# Altium schematic symbol library arthurbenemann-Atmel.SchLib: 651 symbols (part 9 of 28)
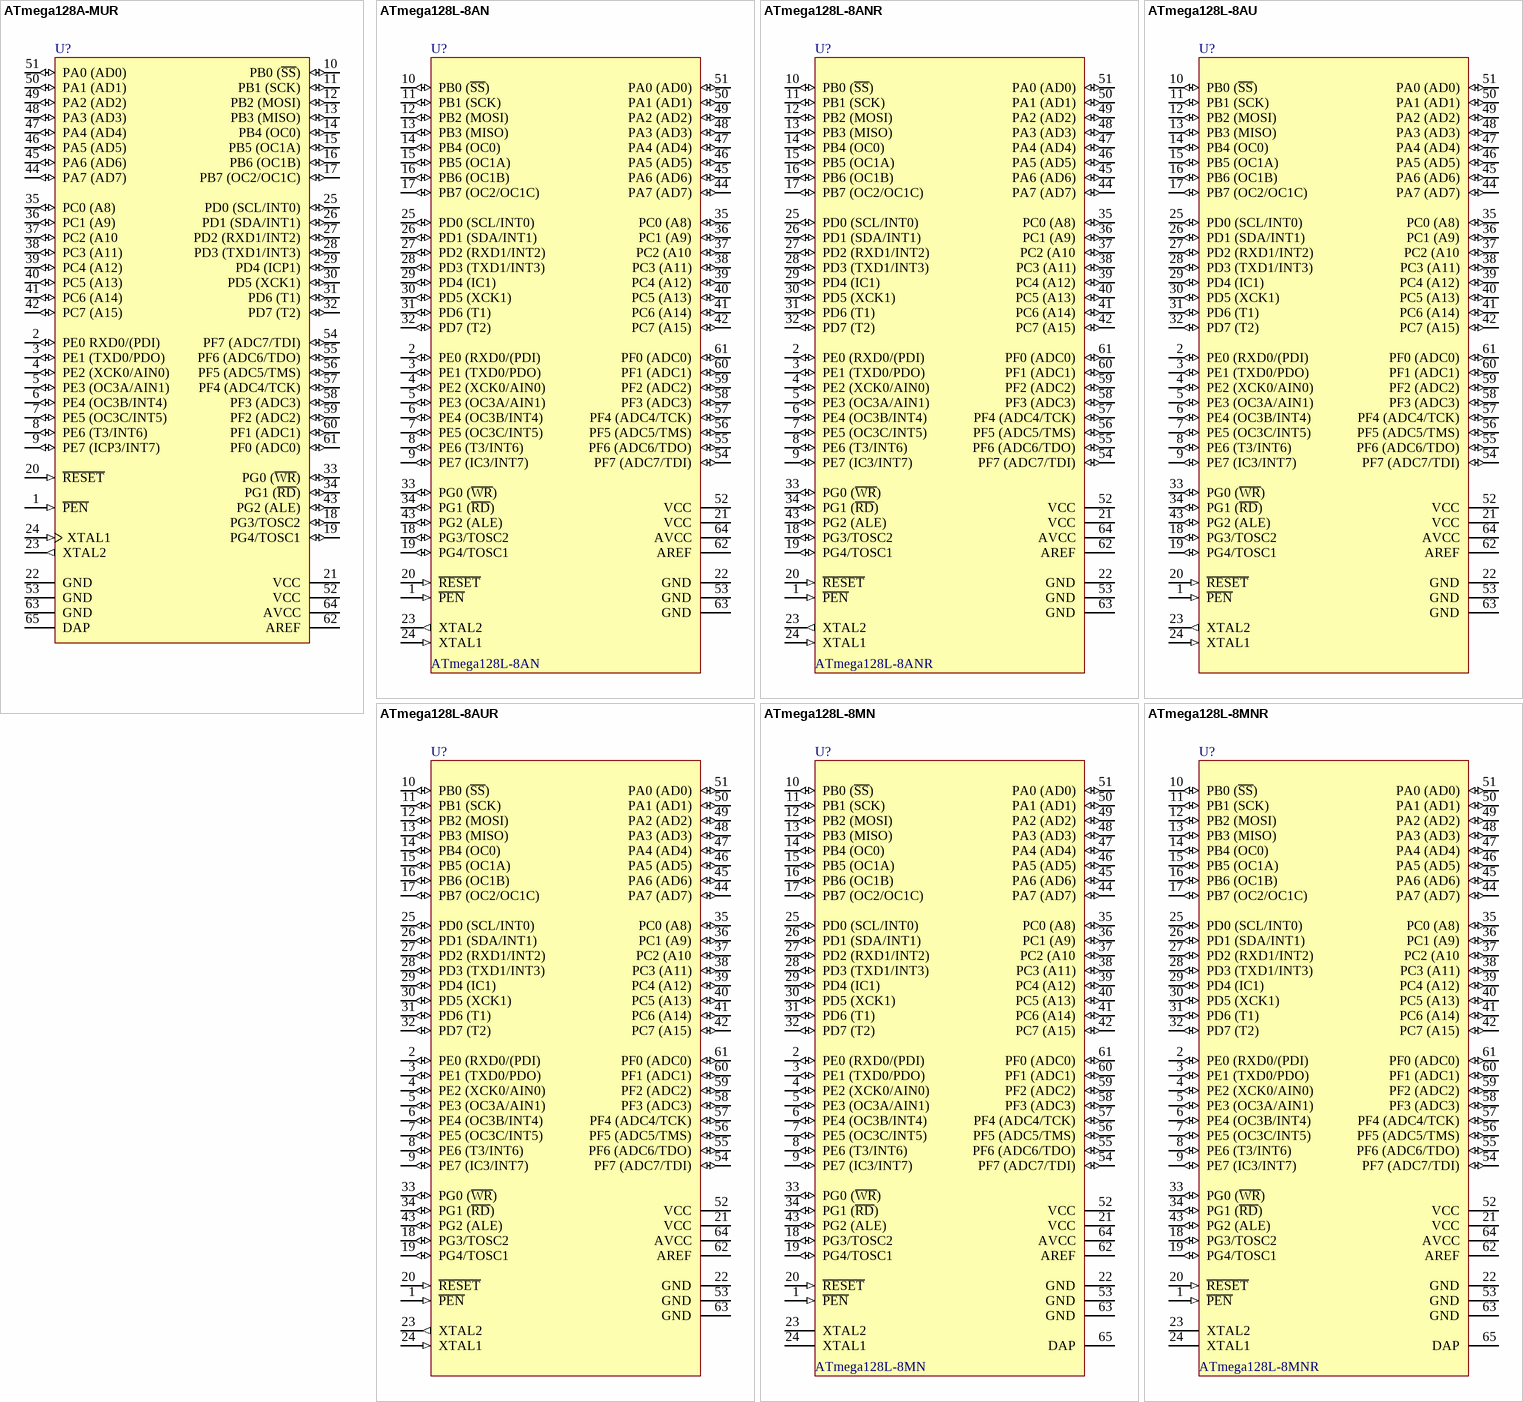
[diagram p95: symbols ATmega128A-MUR to ATmega128L-8MNR]

## ATmega128L-8AUR
designator U?
8-bit AVR Microcontroller, 2.7-5.5V, 128KB Flash, 4KB EEPROM, 4KB SRAM, 64-pin TQFP, Industrial Grade (-40°C to 85°C), Reel; DatasheetVersion: revX, Jun-2011; PackageVersion: revC, Oct-2010; PackageReference: 64A; PackageDescription: 64-Pin Plastic Thin Profile Quad Flat Pack, 14 x 14 x 1.0 mm Body, 0.8 mm Pitch (TQFP); Code_JEDEC: MS-026-AEB; ComponentLink1Description: Manufacturer URL; ComponentLink1URL: http://www.atmel.com/; ComponentLink2Description: ATmega128(L) Datasheet; ComponentLink2URL: http://www.atmel.com/dyn/resources/prod_documents/doc2467.pdf; ComponentLink3Description: ATmega128(L) Summary; ComponentLink3URL: http://www.atmel.com/dyn/resources/prod_documents/2467S.pdf
footprint 64A_N (Thin QFP, 64-Leads, Body 14x14mm, Pitch 0.8mm, IPC Medium Density)
footprint 64A_L (Thin QFP, 64-Leads, Body 14x14mm, Pitch 0.8mm, IPC High Density)
footprint 64A_M (Thin QFP, 64-Leads, Body 14x14mm, Pitch 0.8mm, IPC Low Density)
pins: 1 ~{PEN} (in), 2 PE0 (RXD0/(PDI) (io), 3 PE1 (TXD0/PDO) (io), 4 PE2 (XCK0/AIN0) (io), 5 PE3 (OC3A/AIN1) (io), 6 PE4 (OC3B/INT4) (io), 7 PE5 (OC3C/INT5) (io), 8 PE6 (T3/INT6) (io), 9 PE7 (IC3/INT7) (io), 10 PB0 (~{SS}) (io), 11 PB1 (SCK) (io), 12 PB2 (MOSI) (io), 13 PB3 (MISO) (io), 14 PB4 (OC0) (io), 15 PB5 (OC1A) (io), 16 PB6 (OC1B) (io), 17 PB7 (OC2/OC1C) (io), 18 PG3/TOSC2 (io), 19 PG4/TOSC1 (io), 20 ~{RESET} (in), 21 VCC (power), 22 GND (power), 23 XTAL2 (out), 24 XTAL1 (in), 25 PD0 (SCL/INT0) (io), 26 PD1 (SDA/INT1) (io), 27 PD2 (RXD1/INT2) (io), 28 PD3 (TXD1/INT3) (io), 29 PD4 (IC1) (io), 30 PD5 (XCK1) (io), 31 PD6 (T1) (io), 32 PD7 (T2) (io), 33 PG0 (~{WR}) (io), 34 PG1 (~{RD}) (io), 35 PC0 (A8) (io), 36 PC1 (A9) (io), 37 PC2 (A10 (io), 38 PC3 (A11) (io), 39 PC4 (A12) (io), 40 PC5 (A13) (io), 41 PC6 (A14) (io), 42 PC7 (A15) (io), 43 PG2 (ALE) (io), 44 PA7 (AD7) (io), 45 PA6 (AD6) (io), 46 PA5 (AD5) (io), 47 PA4 (AD4) (io), 48 PA3 (AD3) (io), 49 PA2 (AD2) (io), 50 PA1 (AD1) (io), 51 PA0 (AD0) (io), 52 VCC (power), 53 GND (power), 54 PF7 (ADC7/TDI) (io), 55 PF6 (ADC6/TDO) (io), 56 PF5 (ADC5/TMS) (io), 57 PF4 (ADC4/TCK) (io), 58 PF3 (ADC3) (io), 59 PF2 (ADC2) (io), 60 PF1 (ADC1) (io), 61 PF0 (ADC0) (io), 62 AREF, 63 GND (power), 64 AVCC (power)

## ATmega128L-8MN
designator U?
8-bit AVR Microcontroller, 3.0-5.5V, 128KB Flash, 4KB EEPROM, 4KB SRAM, 64-pin MLF, Extended Grade (-40°C to 105°C); DatasheetVersion: revX, Jun-2011; PackageVersion: revH, Oct-2010; PackageReference: 64M1; PackageDescription: 64-Pin Micro Lead Frame Package (MLF), 9 x 9 x 1.0 mm Body, 0.5 mm Pitch, 5.40 mm Exposed Pad; Code_JEDEC: MO-220-VMMD; ComponentLink1Description: Manufacturer URL; ComponentLink1URL: http://www.atmel.com/; ComponentLink2Description: ATmega128(L) Datasheet; ComponentLink2URL: http://www.atmel.com/dyn/resources/prod_documents/doc2467.pdf; ComponentLink3Description: ATmega128(L) Summary; ComponentLink3URL: http://www.atmel.com/dyn/resources/prod_documents/2467S.pdf
footprint 64M1_N (QFN, 64-Leads, Body 9x9mm, Pitch 0.5mm, Thermal Pad 5.6x5.6mm, IPC Medium Density)
footprint 64M1_L (QFN, 64-Leads, Body 9x9mm, Pitch 0.5mm, Thermal Pad 5.6x5.6mm, IPC High Density)
footprint 64M1_M (QFN, 64-Leads, Body 9x9mm, Pitch 0.5mm, Thermal Pad 5.6x5.6mm, IPC Low Density)
pins: 1 ~{PEN} (in), 2 PE0 (RXD0/(PDI) (io), 3 PE1 (TXD0/PDO) (io), 4 PE2 (XCK0/AIN0) (io), 5 PE3 (OC3A/AIN1) (io), 6 PE4 (OC3B/INT4) (io), 7 PE5 (OC3C/INT5) (io), 8 PE6 (T3/INT6) (io), 9 PE7 (IC3/INT7) (io), 10 PB0 (~{SS}) (io), 11 PB1 (SCK) (io), 12 PB2 (MOSI) (io), 13 PB3 (MISO) (io), 14 PB4 (OC0) (io), 15 PB5 (OC1A) (io), 16 PB6 (OC1B) (io), 17 PB7 (OC2/OC1C) (io), 18 PG3/TOSC2 (io), 19 PG4/TOSC1 (io), 20 ~{RESET} (in), 21 VCC (power), 22 GND (power), 23 XTAL2, 24 XTAL1, 25 PD0 (SCL/INT0) (io), 26 PD1 (SDA/INT1) (io), 27 PD2 (RXD1/INT2) (io), 28 PD3 (TXD1/INT3) (io), 29 PD4 (IC1) (io), 30 PD5 (XCK1) (io), 31 PD6 (T1) (io), 32 PD7 (T2) (io), 33 PG0 (~{WR}) (io), 34 PG1 (~{RD}) (io), 35 PC0 (A8) (io), 36 PC1 (A9) (io), 37 PC2 (A10 (io), 38 PC3 (A11) (io), 39 PC4 (A12) (io), 40 PC5 (A13) (io), 41 PC6 (A14) (io), 42 PC7 (A15) (io), 43 PG2 (ALE) (io), 44 PA7 (AD7) (io), 45 PA6 (AD6) (io), 46 PA5 (AD5) (io), 47 PA4 (AD4) (io), 48 PA3 (AD3) (io), 49 PA2 (AD2) (io), 50 PA1 (AD1) (io), 51 PA0 (AD0) (io), 52 VCC (power), 53 GND (power), 54 PF7 (ADC7/TDI) (io), 55 PF6 (ADC6/TDO) (io), 56 PF5 (ADC5/TMS) (io), 57 PF4 (ADC4/TCK) (io), 58 PF3 (ADC3) (io), 59 PF2 (ADC2) (io), 60 PF1 (ADC1) (io), 61 PF0 (ADC0) (io), 62 AREF, 63 GND (power), 64 AVCC (power), 65 DAP (power)

## ATmega128L-8MNR
designator U?
8-bit AVR Microcontroller, 3.0-5.5V, 128KB Flash, 4KB EEPROM, 4KB SRAM, 64-pin MLF, Extended Grade (-40°C to 105°C), Reel; DatasheetVersion: revX, Jun-2011; PackageVersion: revH, Oct-2010; PackageReference: 64M1; PackageDescription: 64-Pin Micro Lead Frame Package (MLF), 9 x 9 x 1.0 mm Body, 0.5 mm Pitch, 5.40 mm Exposed Pad; Code_JEDEC: MO-220-VMMD; ComponentLink1Description: Manufacturer URL; ComponentLink1URL: http://www.atmel.com/; ComponentLink2Description: ATmega128(L) Datasheet; ComponentLink2URL: http://www.atmel.com/dyn/resources/prod_documents/doc2467.pdf; ComponentLink3Description: ATmega128(L) Summary; ComponentLink3URL: http://www.atmel.com/dyn/resources/prod_documents/2467S.pdf
footprint 64M1_N (QFN, 64-Leads, Body 9x9mm, Pitch 0.5mm, Thermal Pad 5.6x5.6mm, IPC Medium Density)
footprint 64M1_L (QFN, 64-Leads, Body 9x9mm, Pitch 0.5mm, Thermal Pad 5.6x5.6mm, IPC High Density)
footprint 64M1_M (QFN, 64-Leads, Body 9x9mm, Pitch 0.5mm, Thermal Pad 5.6x5.6mm, IPC Low Density)
pins: 1 ~{PEN} (in), 2 PE0 (RXD0/(PDI) (io), 3 PE1 (TXD0/PDO) (io), 4 PE2 (XCK0/AIN0) (io), 5 PE3 (OC3A/AIN1) (io), 6 PE4 (OC3B/INT4) (io), 7 PE5 (OC3C/INT5) (io), 8 PE6 (T3/INT6) (io), 9 PE7 (IC3/INT7) (io), 10 PB0 (~{SS}) (io), 11 PB1 (SCK) (io), 12 PB2 (MOSI) (io), 13 PB3 (MISO) (io), 14 PB4 (OC0) (io), 15 PB5 (OC1A) (io), 16 PB6 (OC1B) (io), 17 PB7 (OC2/OC1C) (io), 18 PG3/TOSC2 (io), 19 PG4/TOSC1 (io), 20 ~{RESET} (in), 21 VCC (power), 22 GND (power), 23 XTAL2, 24 XTAL1, 25 PD0 (SCL/INT0) (io), 26 PD1 (SDA/INT1) (io), 27 PD2 (RXD1/INT2) (io), 28 PD3 (TXD1/INT3) (io), 29 PD4 (IC1) (io), 30 PD5 (XCK1) (io), 31 PD6 (T1) (io), 32 PD7 (T2) (io), 33 PG0 (~{WR}) (io), 34 PG1 (~{RD}) (io), 35 PC0 (A8) (io), 36 PC1 (A9) (io), 37 PC2 (A10 (io), 38 PC3 (A11) (io), 39 PC4 (A12) (io), 40 PC5 (A13) (io), 41 PC6 (A14) (io), 42 PC7 (A15) (io), 43 PG2 (ALE) (io), 44 PA7 (AD7) (io), 45 PA6 (AD6) (io), 46 PA5 (AD5) (io), 47 PA4 (AD4) (io), 48 PA3 (AD3) (io), 49 PA2 (AD2) (io), 50 PA1 (AD1) (io), 51 PA0 (AD0) (io), 52 VCC (power), 53 GND (power), 54 PF7 (ADC7/TDI) (io), 55 PF6 (ADC6/TDO) (io), 56 PF5 (ADC5/TMS) (io), 57 PF4 (ADC4/TCK) (io), 58 PF3 (ADC3) (io), 59 PF2 (ADC2) (io), 60 PF1 (ADC1) (io), 61 PF0 (ADC0) (io), 62 AREF, 63 GND (power), 64 AVCC (power), 65 DAP (power)

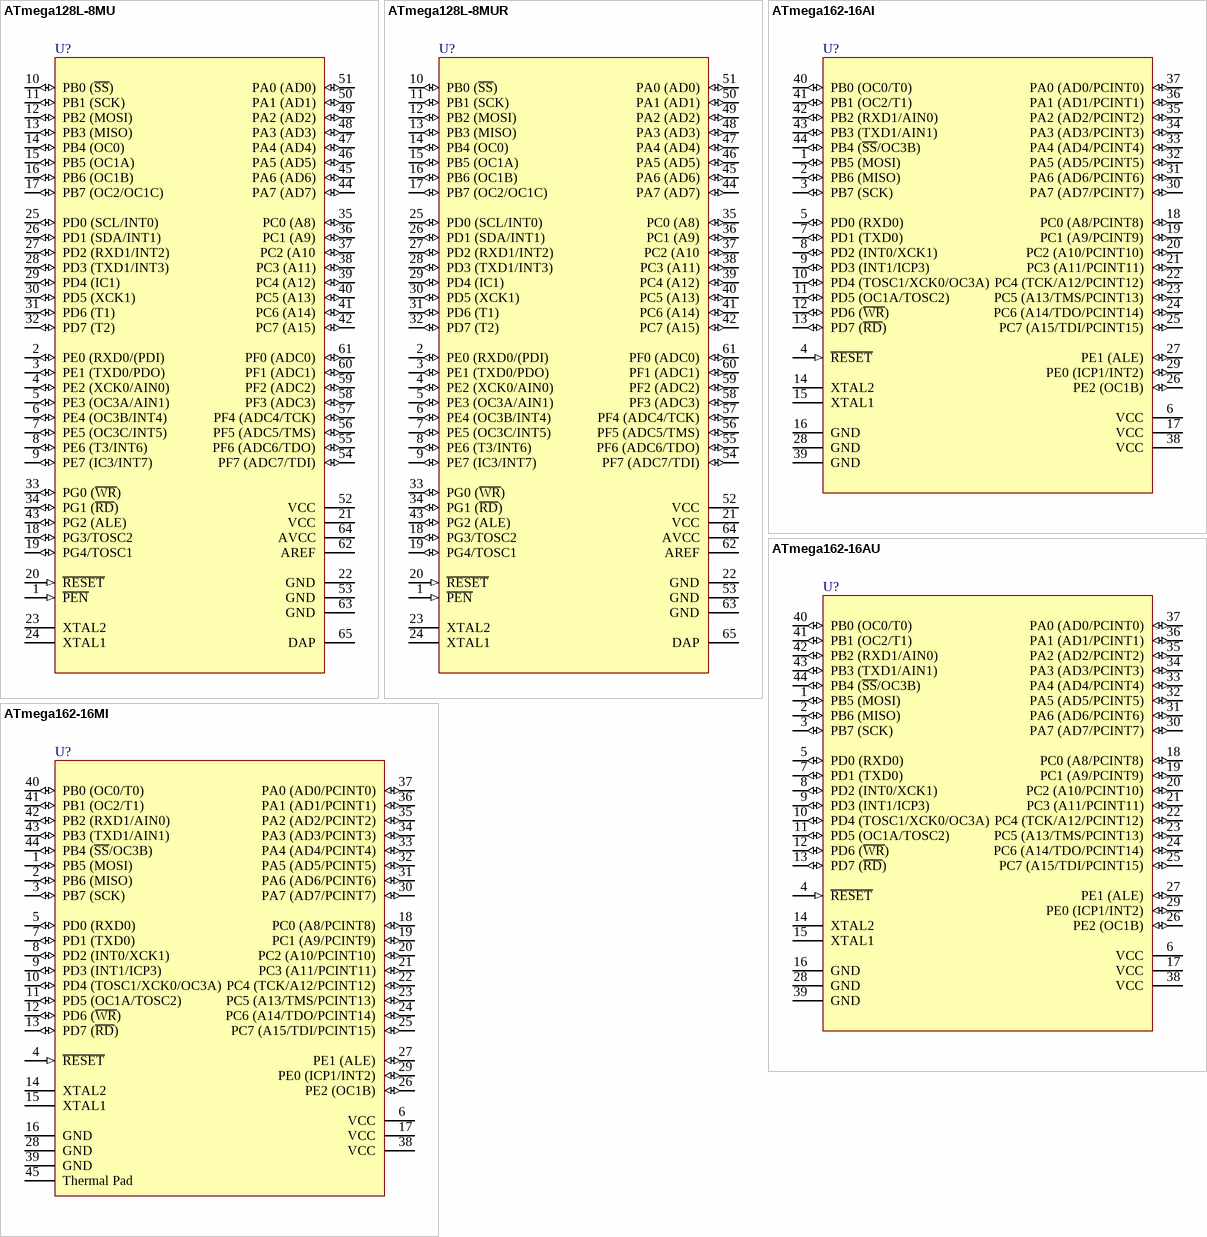
[diagram p21: symbols ATmega128L-8MU to ATmega162-16MI]

## ATmega128L-8MU
designator U?
8-bit AVR Microcontroller, 2.7-5.5V, 128KB Flash, 4KB EEPROM, 4KB SRAM, 64-pin MLF, Industrial Grade (-40°C to 85°C); DatasheetVersion: revX, Jun-2011; PackageVersion: revH, Oct-2010; PackageReference: 64M1; PackageDescription: 64-Pin Micro Lead Frame Package (MLF), 9 x 9 x 1.0 mm Body, 0.5 mm Pitch, 5.40 mm Exposed Pad; Code_JEDEC: MO-220-VMMD; ComponentLink1Description: Manufacturer URL; ComponentLink1URL: http://www.atmel.com/; ComponentLink2Description: ATmega128(L) Datasheet; ComponentLink2URL: http://www.atmel.com/dyn/resources/prod_documents/doc2467.pdf; ComponentLink3Description: ATmega128(L) Summary; ComponentLink3URL: http://www.atmel.com/dyn/resources/prod_documents/2467S.pdf
footprint 64M1_N (QFN, 64-Leads, Body 9x9mm, Pitch 0.5mm, Thermal Pad 5.6x5.6mm, IPC Medium Density)
footprint 64M1_L (QFN, 64-Leads, Body 9x9mm, Pitch 0.5mm, Thermal Pad 5.6x5.6mm, IPC High Density)
footprint 64M1_M (QFN, 64-Leads, Body 9x9mm, Pitch 0.5mm, Thermal Pad 5.6x5.6mm, IPC Low Density)
pins: 1 ~{PEN} (in), 2 PE0 (RXD0/(PDI) (io), 3 PE1 (TXD0/PDO) (io), 4 PE2 (XCK0/AIN0) (io), 5 PE3 (OC3A/AIN1) (io), 6 PE4 (OC3B/INT4) (io), 7 PE5 (OC3C/INT5) (io), 8 PE6 (T3/INT6) (io), 9 PE7 (IC3/INT7) (io), 10 PB0 (~{SS}) (io), 11 PB1 (SCK) (io), 12 PB2 (MOSI) (io), 13 PB3 (MISO) (io), 14 PB4 (OC0) (io), 15 PB5 (OC1A) (io), 16 PB6 (OC1B) (io), 17 PB7 (OC2/OC1C) (io), 18 PG3/TOSC2 (io), 19 PG4/TOSC1 (io), 20 ~{RESET} (in), 21 VCC (power), 22 GND (power), 23 XTAL2, 24 XTAL1, 25 PD0 (SCL/INT0) (io), 26 PD1 (SDA/INT1) (io), 27 PD2 (RXD1/INT2) (io), 28 PD3 (TXD1/INT3) (io), 29 PD4 (IC1) (io), 30 PD5 (XCK1) (io), 31 PD6 (T1) (io), 32 PD7 (T2) (io), 33 PG0 (~{WR}) (io), 34 PG1 (~{RD}) (io), 35 PC0 (A8) (io), 36 PC1 (A9) (io), 37 PC2 (A10 (io), 38 PC3 (A11) (io), 39 PC4 (A12) (io), 40 PC5 (A13) (io), 41 PC6 (A14) (io), 42 PC7 (A15) (io), 43 PG2 (ALE) (io), 44 PA7 (AD7) (io), 45 PA6 (AD6) (io), 46 PA5 (AD5) (io), 47 PA4 (AD4) (io), 48 PA3 (AD3) (io), 49 PA2 (AD2) (io), 50 PA1 (AD1) (io), 51 PA0 (AD0) (io), 52 VCC (power), 53 GND (power), 54 PF7 (ADC7/TDI) (io), 55 PF6 (ADC6/TDO) (io), 56 PF5 (ADC5/TMS) (io), 57 PF4 (ADC4/TCK) (io), 58 PF3 (ADC3) (io), 59 PF2 (ADC2) (io), 60 PF1 (ADC1) (io), 61 PF0 (ADC0) (io), 62 AREF, 63 GND (power), 64 AVCC (power), 65 DAP (power)

## ATmega128L-8MUR
designator U?
8-bit AVR Microcontroller, 2.7-5.5V, 128KB Flash, 4KB EEPROM, 4KB SRAM, 64-pin MLF, Industrial Grade (-40°C to 85°C), Reel; DatasheetVersion: revX, Jun-2011; PackageVersion: revH, Oct-2010; PackageReference: 64M1; PackageDescription: 64-Pin Micro Lead Frame Package (MLF), 9 x 9 x 1.0 mm Body, 0.5 mm Pitch, 5.40 mm Exposed Pad; Code_JEDEC: MO-220-VMMD; ComponentLink1Description: Manufacturer URL; ComponentLink1URL: http://www.atmel.com/; ComponentLink2Description: ATmega128(L) Datasheet; ComponentLink2URL: http://www.atmel.com/dyn/resources/prod_documents/doc2467.pdf; ComponentLink3Description: ATmega128(L) Summary; ComponentLink3URL: http://www.atmel.com/dyn/resources/prod_documents/2467S.pdf
footprint 64M1_N (QFN, 64-Leads, Body 9x9mm, Pitch 0.5mm, Thermal Pad 5.6x5.6mm, IPC Medium Density)
footprint 64M1_L (QFN, 64-Leads, Body 9x9mm, Pitch 0.5mm, Thermal Pad 5.6x5.6mm, IPC High Density)
footprint 64M1_M (QFN, 64-Leads, Body 9x9mm, Pitch 0.5mm, Thermal Pad 5.6x5.6mm, IPC Low Density)
pins: 1 ~{PEN} (in), 2 PE0 (RXD0/(PDI) (io), 3 PE1 (TXD0/PDO) (io), 4 PE2 (XCK0/AIN0) (io), 5 PE3 (OC3A/AIN1) (io), 6 PE4 (OC3B/INT4) (io), 7 PE5 (OC3C/INT5) (io), 8 PE6 (T3/INT6) (io), 9 PE7 (IC3/INT7) (io), 10 PB0 (~{SS}) (io), 11 PB1 (SCK) (io), 12 PB2 (MOSI) (io), 13 PB3 (MISO) (io), 14 PB4 (OC0) (io), 15 PB5 (OC1A) (io), 16 PB6 (OC1B) (io), 17 PB7 (OC2/OC1C) (io), 18 PG3/TOSC2 (io), 19 PG4/TOSC1 (io), 20 ~{RESET} (in), 21 VCC (power), 22 GND (power), 23 XTAL2, 24 XTAL1, 25 PD0 (SCL/INT0) (io), 26 PD1 (SDA/INT1) (io), 27 PD2 (RXD1/INT2) (io), 28 PD3 (TXD1/INT3) (io), 29 PD4 (IC1) (io), 30 PD5 (XCK1) (io), 31 PD6 (T1) (io), 32 PD7 (T2) (io), 33 PG0 (~{WR}) (io), 34 PG1 (~{RD}) (io), 35 PC0 (A8) (io), 36 PC1 (A9) (io), 37 PC2 (A10 (io), 38 PC3 (A11) (io), 39 PC4 (A12) (io), 40 PC5 (A13) (io), 41 PC6 (A14) (io), 42 PC7 (A15) (io), 43 PG2 (ALE) (io), 44 PA7 (AD7) (io), 45 PA6 (AD6) (io), 46 PA5 (AD5) (io), 47 PA4 (AD4) (io), 48 PA3 (AD3) (io), 49 PA2 (AD2) (io), 50 PA1 (AD1) (io), 51 PA0 (AD0) (io), 52 VCC (power), 53 GND (power), 54 PF7 (ADC7/TDI) (io), 55 PF6 (ADC6/TDO) (io), 56 PF5 (ADC5/TMS) (io), 57 PF4 (ADC4/TCK) (io), 58 PF3 (ADC3) (io), 59 PF2 (ADC2) (io), 60 PF1 (ADC1) (io), 61 PF0 (ADC0) (io), 62 AREF, 63 GND (power), 64 AVCC (power), 65 DAP (power)

## ATmega162-16AI
designator U?
8-bit AVR Microcontroller, 16KB Flash, 512 Bytes EEPROM, 1KB SRAM, 44-pin TQFP, Industrial Grade (-40°C to 85°C); DatasheetVersion: revK, Jul-2009; PackageVersion: revC, Oct-2010; PackageReference: 44A; PackageDescription: 44-Pin Plastic Thin Profile Quad Flat Pack, 10 x 10 x 1.0 mm Body, 0.8 mm Pitch (TQFP); Code_JEDEC: MS-026-ACB; ComponentLink1Description: Manufacturer URL; ComponentLink1URL: http://www.atmel.com/; ComponentLink2Description: ATmega162 (V)  Datasheet; ComponentLink2URL: http://www.atmel.com/dyn/resources/prod_documents/doc2513.pdf; ComponentLink3Description: ATmega162 (V) Summary; ComponentLink3URL: http://www.atmel.com/dyn/resources/prod_documents/2513S.pdf
footprint 44A_N (Thin QFP, 44-Leads, Body 10x10mm, Pitch 0.8mm, IPC Medium Density)
footprint 44A_L (Thin QFP, 44-Leads, Body 10x10mm, Pitch 0.8mm, IPC High Density)
footprint 44A_M (Thin QFP, 44-Leads, Body 10x10mm, Pitch 0.8mm, IPC Low Density)
pins: 1 PB5 (MOSI) (io), 2 PB6 (MISO) (io), 3 PB7 (SCK) (io), 4 ~{RESET} (in), 5 PD0 (RXD0) (io), 6 VCC (power), 7 PD1 (TXD0) (io), 8 PD2 (INT0/XCK1) (io), 9 PD3 (INT1/ICP3) (io), 10 PD4 (TOSC1/XCK0/OC3A) (io), 11 PD5 (OC1A/TOSC2) (io), 12 PD6 (~{WR}) (io), 13 PD7 (~{RD}) (io), 14 XTAL2, 15 XTAL1, 16 GND (power), 17 VCC (power), 18 PC0 (A8/PCINT8) (io), 19 PC1 (A9/PCINT9) (io), 20 PC2 (A10/PCINT10) (io), 21 PC3 (A11/PCINT11) (io), 22 PC4 (TCK/A12/PCINT12) (io), 23 PC5 (A13/TMS/PCINT13) (io), 24 PC6 (A14/TDO/PCINT14) (io), 25 PC7 (A15/TDI/PCINT15) (io), 26 PE2 (OC1B) (io), 27 PE1 (ALE) (io), 28 GND (power), 29 PE0 (ICP1/INT2) (io), 30 PA7 (AD7/PCINT7) (io), 31 PA6 (AD6/PCINT6) (io), 32 PA5 (AD5/PCINT5) (io), 33 PA4 (AD4/PCINT4) (io), 34 PA3 (AD3/PCINT3) (io), 35 PA2 (AD2/PCINT2) (io), 36 PA1 (AD1/PCINT1) (io), 37 PA0 (AD0/PCINT0) (io), 38 VCC (power), 39 GND (power), 40 PB0 (OC0/T0) (io), 41 PB1 (OC2/T1) (io), 42 PB2 (RXD1/AIN0) (io), 43 PB3 (TXD1/AIN1) (io), 44 PB4 (~{SS}/OC3B) (io)

## ATmega162-16AU
designator U?
8-bit AVR Microcontroller, 16KB Flash, 512 Bytes EEPROM, 1KB SRAM, 44-pin TQFP, Industrial Grade (-40°C to 85°C); DatasheetVersion: revK, Jul-2009; PackageVersion: revC, Oct-2010; PackageReference: 44A; PackageDescription: 44-Pin Plastic Thin Profile Quad Flat Pack, 10 x 10 x 1.0 mm Body, 0.8 mm Pitch (TQFP); Code_JEDEC: MS-026-ACB; ComponentLink1Description: Manufacturer URL; ComponentLink1URL: http://www.atmel.com/; ComponentLink2Description: ATmega162 (V)  Datasheet; ComponentLink2URL: http://www.atmel.com/dyn/resources/prod_documents/doc2513.pdf; ComponentLink3Description: ATmega162 (V) Summary; ComponentLink3URL: http://www.atmel.com/dyn/resources/prod_documents/2513S.pdf
footprint 44A_N (Thin QFP, 44-Leads, Body 10x10mm, Pitch 0.8mm, IPC Medium Density)
footprint 44A_L (Thin QFP, 44-Leads, Body 10x10mm, Pitch 0.8mm, IPC High Density)
footprint 44A_M (Thin QFP, 44-Leads, Body 10x10mm, Pitch 0.8mm, IPC Low Density)
pins: 1 PB5 (MOSI) (io), 2 PB6 (MISO) (io), 3 PB7 (SCK) (io), 4 ~{RESET} (in), 5 PD0 (RXD0) (io), 6 VCC (power), 7 PD1 (TXD0) (io), 8 PD2 (INT0/XCK1) (io), 9 PD3 (INT1/ICP3) (io), 10 PD4 (TOSC1/XCK0/OC3A) (io), 11 PD5 (OC1A/TOSC2) (io), 12 PD6 (~{WR}) (io), 13 PD7 (~{RD}) (io), 14 XTAL2, 15 XTAL1, 16 GND (power), 17 VCC (power), 18 PC0 (A8/PCINT8) (io), 19 PC1 (A9/PCINT9) (io), 20 PC2 (A10/PCINT10) (io), 21 PC3 (A11/PCINT11) (io), 22 PC4 (TCK/A12/PCINT12) (io), 23 PC5 (A13/TMS/PCINT13) (io), 24 PC6 (A14/TDO/PCINT14) (io), 25 PC7 (A15/TDI/PCINT15) (io), 26 PE2 (OC1B) (io), 27 PE1 (ALE) (io), 28 GND (power), 29 PE0 (ICP1/INT2) (io), 30 PA7 (AD7/PCINT7) (io), 31 PA6 (AD6/PCINT6) (io), 32 PA5 (AD5/PCINT5) (io), 33 PA4 (AD4/PCINT4) (io), 34 PA3 (AD3/PCINT3) (io), 35 PA2 (AD2/PCINT2) (io), 36 PA1 (AD1/PCINT1) (io), 37 PA0 (AD0/PCINT0) (io), 38 VCC (power), 39 GND (power), 40 PB0 (OC0/T0) (io), 41 PB1 (OC2/T1) (io), 42 PB2 (RXD1/AIN0) (io), 43 PB3 (TXD1/AIN1) (io), 44 PB4 (~{SS}/OC3B) (io)

## ATmega162-16MI
designator U?
8-bit AVR Microcontroller, 16KB Flash, 512 Bytes EEPROM, 1KB SRAM, 44-pin VQFN, Industrial Grade (-40°C to 85°C); DatasheetVersion: revK, Jul-2009; PackageVersion: revH, Sep-2008; PackageReference: 44M1; PackageDescription: 44-Pin Plastic Very Thin Quad Flat No-Lead Package, 7 x 7 x 1.0 mm Body, 0.5 mm Pitch (VQFN), 5.2 mm Exposed Pad; Code_JEDEC: MO-220-VKKD-1; ComponentLink1Description: Manufacturer URL; ComponentLink1URL: http://www.atmel.com/; ComponentLink2Description: ATmega162 (V)  Datasheet; ComponentLink2URL: http://www.atmel.com/dyn/resources/prod_documents/doc2513.pdf; ComponentLink3Description: ATmega162 (V) Summary; ComponentLink3URL: http://www.atmel.com/dyn/resources/prod_documents/2513S.pdf
footprint 44M1_N (QFN, 44-Leads, Body 7x7mm, Pitch 0.5mm, Thermal Pad 5.3x5.3mm, IPC Medium Density)
footprint 44M1_L (QFN, 44-Leads, Body 7x7mm, Pitch 0.5mm, Thermal Pad 5.3x5.3mm, IPC High Density)
footprint 44M1_M (QFN, 44-Leads, Body 7x7mm, Pitch 0.5mm, Thermal Pad 5.3x5.3mm, IPC Low Density)
pins: 1 PB5 (MOSI) (io), 2 PB6 (MISO) (io), 3 PB7 (SCK) (io), 4 ~{RESET} (in), 5 PD0 (RXD0) (io), 6 VCC (power), 7 PD1 (TXD0) (io), 8 PD2 (INT0/XCK1) (io), 9 PD3 (INT1/ICP3) (io), 10 PD4 (TOSC1/XCK0/OC3A) (io), 11 PD5 (OC1A/TOSC2) (io), 12 PD6 (~{WR}) (io), 13 PD7 (~{RD}) (io), 14 XTAL2, 15 XTAL1, 16 GND (power), 17 VCC (power), 18 PC0 (A8/PCINT8) (io), 19 PC1 (A9/PCINT9) (io), 20 PC2 (A10/PCINT10) (io), 21 PC3 (A11/PCINT11) (io), 22 PC4 (TCK/A12/PCINT12) (io), 23 PC5 (A13/TMS/PCINT13) (io), 24 PC6 (A14/TDO/PCINT14) (io), 25 PC7 (A15/TDI/PCINT15) (io), 26 PE2 (OC1B) (io), 27 PE1 (ALE) (io), 28 GND (power), 29 PE0 (ICP1/INT2) (io), 30 PA7 (AD7/PCINT7) (io), 31 PA6 (AD6/PCINT6) (io), 32 PA5 (AD5/PCINT5) (io), 33 PA4 (AD4/PCINT4) (io), 34 PA3 (AD3/PCINT3) (io), 35 PA2 (AD2/PCINT2) (io), 36 PA1 (AD1/PCINT1) (io), 37 PA0 (AD0/PCINT0) (io), 38 VCC (power), 39 GND (power), 40 PB0 (OC0/T0) (io), 41 PB1 (OC2/T1) (io), 42 PB2 (RXD1/AIN0) (io), 43 PB3 (TXD1/AIN1) (io), 44 PB4 (~{SS}/OC3B) (io), 45 Thermal Pad (power)

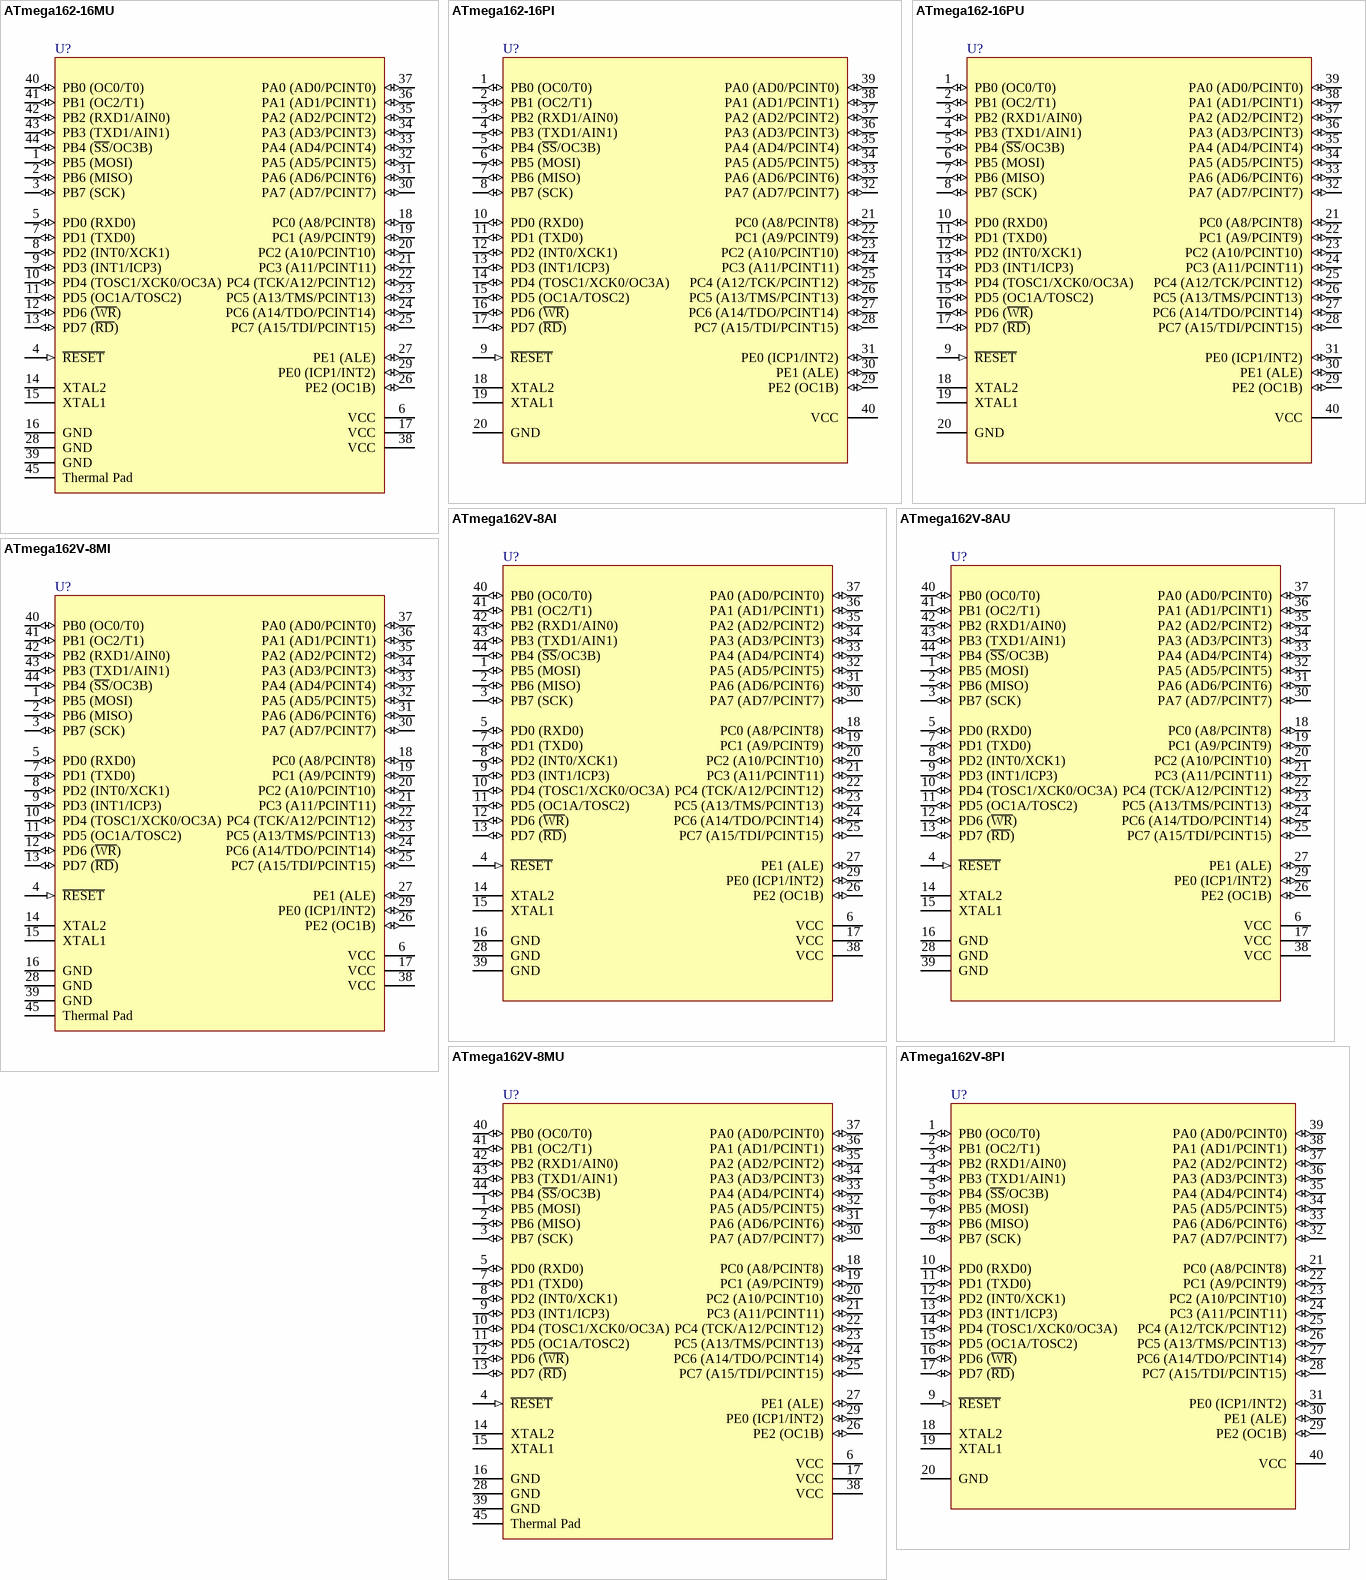
[diagram p22: symbols ATmega162-16MU to ATmega162V-8PI]

## ATmega162-16MU
designator U?
8-bit AVR Microcontroller, 16KB Flash, 512 Bytes EEPROM, 1KB SRAM, 44-pin VQFN, Industrial Grade (-40°C to 85°C); DatasheetVersion: revK, Jul-2009; PackageVersion: revH, Sep-2008; PackageReference: 44M1; PackageDescription: 44-Pin Plastic Very Thin Quad Flat No-Lead Package, 7 x 7 x 1.0 mm Body, 0.5 mm Pitch (VQFN), 5.2 mm Exposed Pad; Code_JEDEC: MO-220-VKKD-1; ComponentLink1Description: Manufacturer URL; ComponentLink1URL: http://www.atmel.com/; ComponentLink2Description: ATmega162 (V)  Datasheet; ComponentLink2URL: http://www.atmel.com/dyn/resources/prod_documents/doc2513.pdf; ComponentLink3Description: ATmega162 (V) Summary; ComponentLink3URL: http://www.atmel.com/dyn/resources/prod_documents/2513S.pdf
footprint 44M1_N (QFN, 44-Leads, Body 7x7mm, Pitch 0.5mm, Thermal Pad 5.3x5.3mm, IPC Medium Density)
footprint 44M1_L (QFN, 44-Leads, Body 7x7mm, Pitch 0.5mm, Thermal Pad 5.3x5.3mm, IPC High Density)
footprint 44M1_M (QFN, 44-Leads, Body 7x7mm, Pitch 0.5mm, Thermal Pad 5.3x5.3mm, IPC Low Density)
pins: 1 PB5 (MOSI) (io), 2 PB6 (MISO) (io), 3 PB7 (SCK) (io), 4 ~{RESET} (in), 5 PD0 (RXD0) (io), 6 VCC (power), 7 PD1 (TXD0) (io), 8 PD2 (INT0/XCK1) (io), 9 PD3 (INT1/ICP3) (io), 10 PD4 (TOSC1/XCK0/OC3A) (io), 11 PD5 (OC1A/TOSC2) (io), 12 PD6 (~{WR}) (io), 13 PD7 (~{RD}) (io), 14 XTAL2, 15 XTAL1, 16 GND (power), 17 VCC (power), 18 PC0 (A8/PCINT8) (io), 19 PC1 (A9/PCINT9) (io), 20 PC2 (A10/PCINT10) (io), 21 PC3 (A11/PCINT11) (io), 22 PC4 (TCK/A12/PCINT12) (io), 23 PC5 (A13/TMS/PCINT13) (io), 24 PC6 (A14/TDO/PCINT14) (io), 25 PC7 (A15/TDI/PCINT15) (io), 26 PE2 (OC1B) (io), 27 PE1 (ALE) (io), 28 GND (power), 29 PE0 (ICP1/INT2) (io), 30 PA7 (AD7/PCINT7) (io), 31 PA6 (AD6/PCINT6) (io), 32 PA5 (AD5/PCINT5) (io), 33 PA4 (AD4/PCINT4) (io), 34 PA3 (AD3/PCINT3) (io), 35 PA2 (AD2/PCINT2) (io), 36 PA1 (AD1/PCINT1) (io), 37 PA0 (AD0/PCINT0) (io), 38 VCC (power), 39 GND (power), 40 PB0 (OC0/T0) (io), 41 PB1 (OC2/T1) (io), 42 PB2 (RXD1/AIN0) (io), 43 PB3 (TXD1/AIN1) (io), 44 PB4 (~{SS}/OC3B) (io), 45 Thermal Pad (power)

## ATmega162-16PI
designator U?
8-bit AVR Microcontroller, 16KB Flash, 512 Bytes EEPROM, 1KB SRAM, 40-pin PDIP, Industrial Grade (-40°C to 85°C); PartNumber: ATmega162-16PI; DatasheetVersion: revK, Jul-2009; PackageVersion: revB, Sep-2001; PackageReference: 40P6; PackageDescription: 40-lead (0.600"/15.24mm Wide) Plastic Dual Inline Package (PDIP); Code_JEDEC: MS-011-AC; ComponentLink1Description: Manufacturer URL; ComponentLink1URL: http://www.atmel.com/; ComponentLink2Description: ATmega162 (V)  Datasheet; ComponentLink2URL: http://www.atmel.com/dyn/resources/prod_documents/doc2513.pdf; ComponentLink3Description: ATmega162 (V) Summary; ComponentLink3URL: http://www.atmel.com/dyn/resources/prod_documents/2513S.pdf
footprint 40P6 (DIP, 40-Leads, Row Spacing 15.24mm, Pitch 2.54mm, Body 52.2x13.95mm)
pins: 1 PB0 (OC0/T0) (io), 2 PB1 (OC2/T1) (io), 3 PB2 (RXD1/AIN0) (io), 4 PB3 (TXD1/AIN1) (io), 5 PB4 (~{SS}/OC3B) (io), 6 PB5 (MOSI) (io), 7 PB6 (MISO) (io), 8 PB7 (SCK) (io), 9 ~{RESET} (in), 10 PD0 (RXD0) (io), 11 PD1 (TXD0) (io), 12 PD2 (INT0/XCK1) (io), 13 PD3 (INT1/ICP3) (io), 14 PD4 (TOSC1/XCK0/OC3A) (io), 15 PD5 (OC1A/TOSC2) (io), 16 PD6 (~{WR}) (io), 17 PD7 (~{RD}) (io), 18 XTAL2, 19 XTAL1, 20 GND (power), 21 PC0 (A8/PCINT8) (io), 22 PC1 (A9/PCINT9) (io), 23 PC2 (A10/PCINT10) (io), 24 PC3 (A11/PCINT11) (io), 25 PC4 (A12/TCK/PCINT12) (io), 26 PC5 (A13/TMS/PCINT13) (io), 27 PC6 (A14/TDO/PCINT14) (io), 28 PC7 (A15/TDI/PCINT15) (io), 29 PE2 (OC1B) (io), 30 PE1 (ALE) (io), 31 PE0 (ICP1/INT2) (io), 32 PA7 (AD7/PCINT7) (io), 33 PA6 (AD6/PCINT6) (io), 34 PA5 (AD5/PCINT5) (io), 35 PA4 (AD4/PCINT4) (io), 36 PA3 (AD3/PCINT3) (io), 37 PA2 (AD2/PCINT2) (io), 38 PA1 (AD1/PCINT1) (io), 39 PA0 (AD0/PCINT0) (io), 40 VCC (power)

## ATmega162-16PU
designator U?
8-bit AVR Microcontroller, 16KB Flash, 512 Bytes EEPROM, 1KB SRAM, 40-pin PDIP, Industrial Grade (-40°C to 85°C); PartNumber: ATmega162-16PU; DatasheetVersion: revK, Jul-2009; PackageVersion: revB, Sep-2001; PackageReference: 40P6; PackageDescription: 40-lead (0.600"/15.24mm Wide) Plastic Dual Inline Package (PDIP); Code_JEDEC: MS-011-AC; ComponentLink1Description: Manufacturer URL; ComponentLink1URL: http://www.atmel.com/; ComponentLink2Description: ATmega162 (V)  Datasheet; ComponentLink2URL: http://www.atmel.com/dyn/resources/prod_documents/doc2513.pdf; ComponentLink3Description: ATmega162 (V) Summary; ComponentLink3URL: http://www.atmel.com/dyn/resources/prod_documents/2513S.pdf
footprint 40P6 (DIP, 40-Leads, Row Spacing 15.24mm, Pitch 2.54mm, Body 52.2x13.95mm)
pins: 1 PB0 (OC0/T0) (io), 2 PB1 (OC2/T1) (io), 3 PB2 (RXD1/AIN0) (io), 4 PB3 (TXD1/AIN1) (io), 5 PB4 (~{SS}/OC3B) (io), 6 PB5 (MOSI) (io), 7 PB6 (MISO) (io), 8 PB7 (SCK) (io), 9 ~{RESET} (in), 10 PD0 (RXD0) (io), 11 PD1 (TXD0) (io), 12 PD2 (INT0/XCK1) (io), 13 PD3 (INT1/ICP3) (io), 14 PD4 (TOSC1/XCK0/OC3A) (io), 15 PD5 (OC1A/TOSC2) (io), 16 PD6 (~{WR}) (io), 17 PD7 (~{RD}) (io), 18 XTAL2, 19 XTAL1, 20 GND (power), 21 PC0 (A8/PCINT8) (io), 22 PC1 (A9/PCINT9) (io), 23 PC2 (A10/PCINT10) (io), 24 PC3 (A11/PCINT11) (io), 25 PC4 (A12/TCK/PCINT12) (io), 26 PC5 (A13/TMS/PCINT13) (io), 27 PC6 (A14/TDO/PCINT14) (io), 28 PC7 (A15/TDI/PCINT15) (io), 29 PE2 (OC1B) (io), 30 PE1 (ALE) (io), 31 PE0 (ICP1/INT2) (io), 32 PA7 (AD7/PCINT7) (io), 33 PA6 (AD6/PCINT6) (io), 34 PA5 (AD5/PCINT5) (io), 35 PA4 (AD4/PCINT4) (io), 36 PA3 (AD3/PCINT3) (io), 37 PA2 (AD2/PCINT2) (io), 38 PA1 (AD1/PCINT1) (io), 39 PA0 (AD0/PCINT0) (io), 40 VCC (power)

## ATmega162V-8AI
designator U?
8-bit AVR Microcontroller, 16KB Flash, 512 Bytes EEPROM, 1KB SRAM, 44-pin TQFP, Industrial Grade (-40°C to 85°C); DatasheetVersion: revK, Jul-2009; PackageVersion: revC, Oct-2010; PackageReference: 44A; PackageDescription: 44-Pin Plastic Thin Profile Quad Flat Pack, 10 x 10 x 1.0 mm Body, 0.8 mm Pitch (TQFP); Code_JEDEC: MS-026-ACB; ComponentLink1Description: Manufacturer URL; ComponentLink1URL: http://www.atmel.com/; ComponentLink2Description: ATmega162 (V)  Datasheet; ComponentLink2URL: http://www.atmel.com/dyn/resources/prod_documents/doc2513.pdf; ComponentLink3Description: ATmega162 (V) Summary; ComponentLink3URL: http://www.atmel.com/dyn/resources/prod_documents/2513S.pdf
footprint 44A_N (Thin QFP, 44-Leads, Body 10x10mm, Pitch 0.8mm, IPC Medium Density)
footprint 44A_L (Thin QFP, 44-Leads, Body 10x10mm, Pitch 0.8mm, IPC High Density)
footprint 44A_M (Thin QFP, 44-Leads, Body 10x10mm, Pitch 0.8mm, IPC Low Density)
pins: 1 PB5 (MOSI) (io), 2 PB6 (MISO) (io), 3 PB7 (SCK) (io), 4 ~{RESET} (in), 5 PD0 (RXD0) (io), 6 VCC (power), 7 PD1 (TXD0) (io), 8 PD2 (INT0/XCK1) (io), 9 PD3 (INT1/ICP3) (io), 10 PD4 (TOSC1/XCK0/OC3A) (io), 11 PD5 (OC1A/TOSC2) (io), 12 PD6 (~{WR}) (io), 13 PD7 (~{RD}) (io), 14 XTAL2, 15 XTAL1, 16 GND (power), 17 VCC (power), 18 PC0 (A8/PCINT8) (io), 19 PC1 (A9/PCINT9) (io), 20 PC2 (A10/PCINT10) (io), 21 PC3 (A11/PCINT11) (io), 22 PC4 (TCK/A12/PCINT12) (io), 23 PC5 (A13/TMS/PCINT13) (io), 24 PC6 (A14/TDO/PCINT14) (io), 25 PC7 (A15/TDI/PCINT15) (io), 26 PE2 (OC1B) (io), 27 PE1 (ALE) (io), 28 GND (power), 29 PE0 (ICP1/INT2) (io), 30 PA7 (AD7/PCINT7) (io), 31 PA6 (AD6/PCINT6) (io), 32 PA5 (AD5/PCINT5) (io), 33 PA4 (AD4/PCINT4) (io), 34 PA3 (AD3/PCINT3) (io), 35 PA2 (AD2/PCINT2) (io), 36 PA1 (AD1/PCINT1) (io), 37 PA0 (AD0/PCINT0) (io), 38 VCC (power), 39 GND (power), 40 PB0 (OC0/T0) (io), 41 PB1 (OC2/T1) (io), 42 PB2 (RXD1/AIN0) (io), 43 PB3 (TXD1/AIN1) (io), 44 PB4 (~{SS}/OC3B) (io)

## ATmega162V-8AU
designator U?
8-bit AVR Microcontroller, 16KB Flash, 512 Bytes EEPROM, 1KB SRAM, 44-pin TQFP, Industrial Grade (-40°C to 85°C); DatasheetVersion: revK, Jul-2009; PackageVersion: revC, Oct-2010; PackageReference: 44A; PackageDescription: 44-Pin Plastic Thin Profile Quad Flat Pack, 10 x 10 x 1.0 mm Body, 0.8 mm Pitch (TQFP); Code_JEDEC: MS-026-ACB; ComponentLink1Description: Manufacturer URL; ComponentLink1URL: http://www.atmel.com/; ComponentLink2Description: ATmega162 (V)  Datasheet; ComponentLink2URL: http://www.atmel.com/dyn/resources/prod_documents/doc2513.pdf; ComponentLink3Description: ATmega162 (V) Summary; ComponentLink3URL: http://www.atmel.com/dyn/resources/prod_documents/2513S.pdf
footprint 44A_N (Thin QFP, 44-Leads, Body 10x10mm, Pitch 0.8mm, IPC Medium Density)
footprint 44A_L (Thin QFP, 44-Leads, Body 10x10mm, Pitch 0.8mm, IPC High Density)
footprint 44A_M (Thin QFP, 44-Leads, Body 10x10mm, Pitch 0.8mm, IPC Low Density)
pins: 1 PB5 (MOSI) (io), 2 PB6 (MISO) (io), 3 PB7 (SCK) (io), 4 ~{RESET} (in), 5 PD0 (RXD0) (io), 6 VCC (power), 7 PD1 (TXD0) (io), 8 PD2 (INT0/XCK1) (io), 9 PD3 (INT1/ICP3) (io), 10 PD4 (TOSC1/XCK0/OC3A) (io), 11 PD5 (OC1A/TOSC2) (io), 12 PD6 (~{WR}) (io), 13 PD7 (~{RD}) (io), 14 XTAL2, 15 XTAL1, 16 GND (power), 17 VCC (power), 18 PC0 (A8/PCINT8) (io), 19 PC1 (A9/PCINT9) (io), 20 PC2 (A10/PCINT10) (io), 21 PC3 (A11/PCINT11) (io), 22 PC4 (TCK/A12/PCINT12) (io), 23 PC5 (A13/TMS/PCINT13) (io), 24 PC6 (A14/TDO/PCINT14) (io), 25 PC7 (A15/TDI/PCINT15) (io), 26 PE2 (OC1B) (io), 27 PE1 (ALE) (io), 28 GND (power), 29 PE0 (ICP1/INT2) (io), 30 PA7 (AD7/PCINT7) (io), 31 PA6 (AD6/PCINT6) (io), 32 PA5 (AD5/PCINT5) (io), 33 PA4 (AD4/PCINT4) (io), 34 PA3 (AD3/PCINT3) (io), 35 PA2 (AD2/PCINT2) (io), 36 PA1 (AD1/PCINT1) (io), 37 PA0 (AD0/PCINT0) (io), 38 VCC (power), 39 GND (power), 40 PB0 (OC0/T0) (io), 41 PB1 (OC2/T1) (io), 42 PB2 (RXD1/AIN0) (io), 43 PB3 (TXD1/AIN1) (io), 44 PB4 (~{SS}/OC3B) (io)

## ATmega162V-8MI
designator U?
8-bit AVR Microcontroller, 16KB Flash, 512 Bytes EEPROM, 1KB SRAM, 44-pin VQFN, Industrial Grade (-40°C to 85°C); DatasheetVersion: revK, Jul-2009; PackageVersion: revH, Sep-2008; PackageReference: 44M1; PackageDescription: 44-Pin Plastic Very Thin Quad Flat No-Lead Package, 7 x 7 x 1.0 mm Body, 0.5 mm Pitch (VQFN), 5.2 mm Exposed Pad; Code_JEDEC: MO-220-VKKD-1; ComponentLink1Description: Manufacturer URL; ComponentLink1URL: http://www.atmel.com/; ComponentLink2Description: ATmega162 (V)  Datasheet; ComponentLink2URL: http://www.atmel.com/dyn/resources/prod_documents/doc2513.pdf; ComponentLink3Description: ATmega162 (V) Summary; ComponentLink3URL: http://www.atmel.com/dyn/resources/prod_documents/2513S.pdf
footprint 44M1_N (QFN, 44-Leads, Body 7x7mm, Pitch 0.5mm, Thermal Pad 5.3x5.3mm, IPC Medium Density)
footprint 44M1_L (QFN, 44-Leads, Body 7x7mm, Pitch 0.5mm, Thermal Pad 5.3x5.3mm, IPC High Density)
footprint 44M1_M (QFN, 44-Leads, Body 7x7mm, Pitch 0.5mm, Thermal Pad 5.3x5.3mm, IPC Low Density)
pins: 1 PB5 (MOSI) (io), 2 PB6 (MISO) (io), 3 PB7 (SCK) (io), 4 ~{RESET} (in), 5 PD0 (RXD0) (io), 6 VCC (power), 7 PD1 (TXD0) (io), 8 PD2 (INT0/XCK1) (io), 9 PD3 (INT1/ICP3) (io), 10 PD4 (TOSC1/XCK0/OC3A) (io), 11 PD5 (OC1A/TOSC2) (io), 12 PD6 (~{WR}) (io), 13 PD7 (~{RD}) (io), 14 XTAL2, 15 XTAL1, 16 GND (power), 17 VCC (power), 18 PC0 (A8/PCINT8) (io), 19 PC1 (A9/PCINT9) (io), 20 PC2 (A10/PCINT10) (io), 21 PC3 (A11/PCINT11) (io), 22 PC4 (TCK/A12/PCINT12) (io), 23 PC5 (A13/TMS/PCINT13) (io), 24 PC6 (A14/TDO/PCINT14) (io), 25 PC7 (A15/TDI/PCINT15) (io), 26 PE2 (OC1B) (io), 27 PE1 (ALE) (io), 28 GND (power), 29 PE0 (ICP1/INT2) (io), 30 PA7 (AD7/PCINT7) (io), 31 PA6 (AD6/PCINT6) (io), 32 PA5 (AD5/PCINT5) (io), 33 PA4 (AD4/PCINT4) (io), 34 PA3 (AD3/PCINT3) (io), 35 PA2 (AD2/PCINT2) (io), 36 PA1 (AD1/PCINT1) (io), 37 PA0 (AD0/PCINT0) (io), 38 VCC (power), 39 GND (power), 40 PB0 (OC0/T0) (io), 41 PB1 (OC2/T1) (io), 42 PB2 (RXD1/AIN0) (io), 43 PB3 (TXD1/AIN1) (io), 44 PB4 (~{SS}/OC3B) (io), 45 Thermal Pad (power)

## ATmega162V-8MU
designator U?
8-bit AVR Microcontroller, 16KB Flash, 512 Bytes EEPROM, 1KB SRAM, 44-pin VQFN, Industrial Grade (-40°C to 85°C); DatasheetVersion: revK, Jul-2009; PackageVersion: revH, Sep-2008; PackageReference: 44M1; PackageDescription: 44-Pin Plastic Very Thin Quad Flat No-Lead Package, 7 x 7 x 1.0 mm Body, 0.5 mm Pitch (VQFN), 5.2 mm Exposed Pad; Code_JEDEC: MO-220-VKKD-1; ComponentLink1Description: Manufacturer URL; ComponentLink1URL: http://www.atmel.com/; ComponentLink2Description: ATmega162 (V)  Datasheet; ComponentLink2URL: http://www.atmel.com/dyn/resources/prod_documents/doc2513.pdf; ComponentLink3Description: ATmega162 (V) Summary; ComponentLink3URL: http://www.atmel.com/dyn/resources/prod_documents/2513S.pdf
footprint 44M1_N (QFN, 44-Leads, Body 7x7mm, Pitch 0.5mm, Thermal Pad 5.3x5.3mm, IPC Medium Density)
footprint 44M1_L (QFN, 44-Leads, Body 7x7mm, Pitch 0.5mm, Thermal Pad 5.3x5.3mm, IPC High Density)
footprint 44M1_M (QFN, 44-Leads, Body 7x7mm, Pitch 0.5mm, Thermal Pad 5.3x5.3mm, IPC Low Density)
pins: 1 PB5 (MOSI) (io), 2 PB6 (MISO) (io), 3 PB7 (SCK) (io), 4 ~{RESET} (in), 5 PD0 (RXD0) (io), 6 VCC (power), 7 PD1 (TXD0) (io), 8 PD2 (INT0/XCK1) (io), 9 PD3 (INT1/ICP3) (io), 10 PD4 (TOSC1/XCK0/OC3A) (io), 11 PD5 (OC1A/TOSC2) (io), 12 PD6 (~{WR}) (io), 13 PD7 (~{RD}) (io), 14 XTAL2, 15 XTAL1, 16 GND (power), 17 VCC (power), 18 PC0 (A8/PCINT8) (io), 19 PC1 (A9/PCINT9) (io), 20 PC2 (A10/PCINT10) (io), 21 PC3 (A11/PCINT11) (io), 22 PC4 (TCK/A12/PCINT12) (io), 23 PC5 (A13/TMS/PCINT13) (io), 24 PC6 (A14/TDO/PCINT14) (io), 25 PC7 (A15/TDI/PCINT15) (io), 26 PE2 (OC1B) (io), 27 PE1 (ALE) (io), 28 GND (power), 29 PE0 (ICP1/INT2) (io), 30 PA7 (AD7/PCINT7) (io), 31 PA6 (AD6/PCINT6) (io), 32 PA5 (AD5/PCINT5) (io), 33 PA4 (AD4/PCINT4) (io), 34 PA3 (AD3/PCINT3) (io), 35 PA2 (AD2/PCINT2) (io), 36 PA1 (AD1/PCINT1) (io), 37 PA0 (AD0/PCINT0) (io), 38 VCC (power), 39 GND (power), 40 PB0 (OC0/T0) (io), 41 PB1 (OC2/T1) (io), 42 PB2 (RXD1/AIN0) (io), 43 PB3 (TXD1/AIN1) (io), 44 PB4 (~{SS}/OC3B) (io), 45 Thermal Pad (power)

## ATmega162V-8PI
designator U?
8-bit AVR Microcontroller, 16KB Flash, 512 Bytes EEPROM, 1KB SRAM, 40-pin PDIP, Industrial Grade (-40°C to 85°C); PartNumber: ATmega162V-8PI; DatasheetVersion: revK, Jul-2009; PackageVersion: revB, Sep-2001; PackageReference: 40P6; PackageDescription: 40-lead (0.600"/15.24mm Wide) Plastic Dual Inline Package (PDIP); Code_JEDEC: MS-011-AC; ComponentLink1Description: Manufacturer URL; ComponentLink1URL: http://www.atmel.com/; ComponentLink2Description: ATmega162 (V)  Datasheet; ComponentLink2URL: http://www.atmel.com/dyn/resources/prod_documents/doc2513.pdf; ComponentLink3Description: ATmega162 (V) Summary; ComponentLink3URL: http://www.atmel.com/dyn/resources/prod_documents/2513S.pdf
footprint 40P6 (DIP, 40-Leads, Row Spacing 15.24mm, Pitch 2.54mm, Body 52.2x13.95mm)
pins: 1 PB0 (OC0/T0) (io), 2 PB1 (OC2/T1) (io), 3 PB2 (RXD1/AIN0) (io), 4 PB3 (TXD1/AIN1) (io), 5 PB4 (~{SS}/OC3B) (io), 6 PB5 (MOSI) (io), 7 PB6 (MISO) (io), 8 PB7 (SCK) (io), 9 ~{RESET} (in), 10 PD0 (RXD0) (io), 11 PD1 (TXD0) (io), 12 PD2 (INT0/XCK1) (io), 13 PD3 (INT1/ICP3) (io), 14 PD4 (TOSC1/XCK0/OC3A) (io), 15 PD5 (OC1A/TOSC2) (io), 16 PD6 (~{WR}) (io), 17 PD7 (~{RD}) (io), 18 XTAL2, 19 XTAL1, 20 GND (power), 21 PC0 (A8/PCINT8) (io), 22 PC1 (A9/PCINT9) (io), 23 PC2 (A10/PCINT10) (io), 24 PC3 (A11/PCINT11) (io), 25 PC4 (A12/TCK/PCINT12) (io), 26 PC5 (A13/TMS/PCINT13) (io), 27 PC6 (A14/TDO/PCINT14) (io), 28 PC7 (A15/TDI/PCINT15) (io), 29 PE2 (OC1B) (io), 30 PE1 (ALE) (io), 31 PE0 (ICP1/INT2) (io), 32 PA7 (AD7/PCINT7) (io), 33 PA6 (AD6/PCINT6) (io), 34 PA5 (AD5/PCINT5) (io), 35 PA4 (AD4/PCINT4) (io), 36 PA3 (AD3/PCINT3) (io), 37 PA2 (AD2/PCINT2) (io), 38 PA1 (AD1/PCINT1) (io), 39 PA0 (AD0/PCINT0) (io), 40 VCC (power)

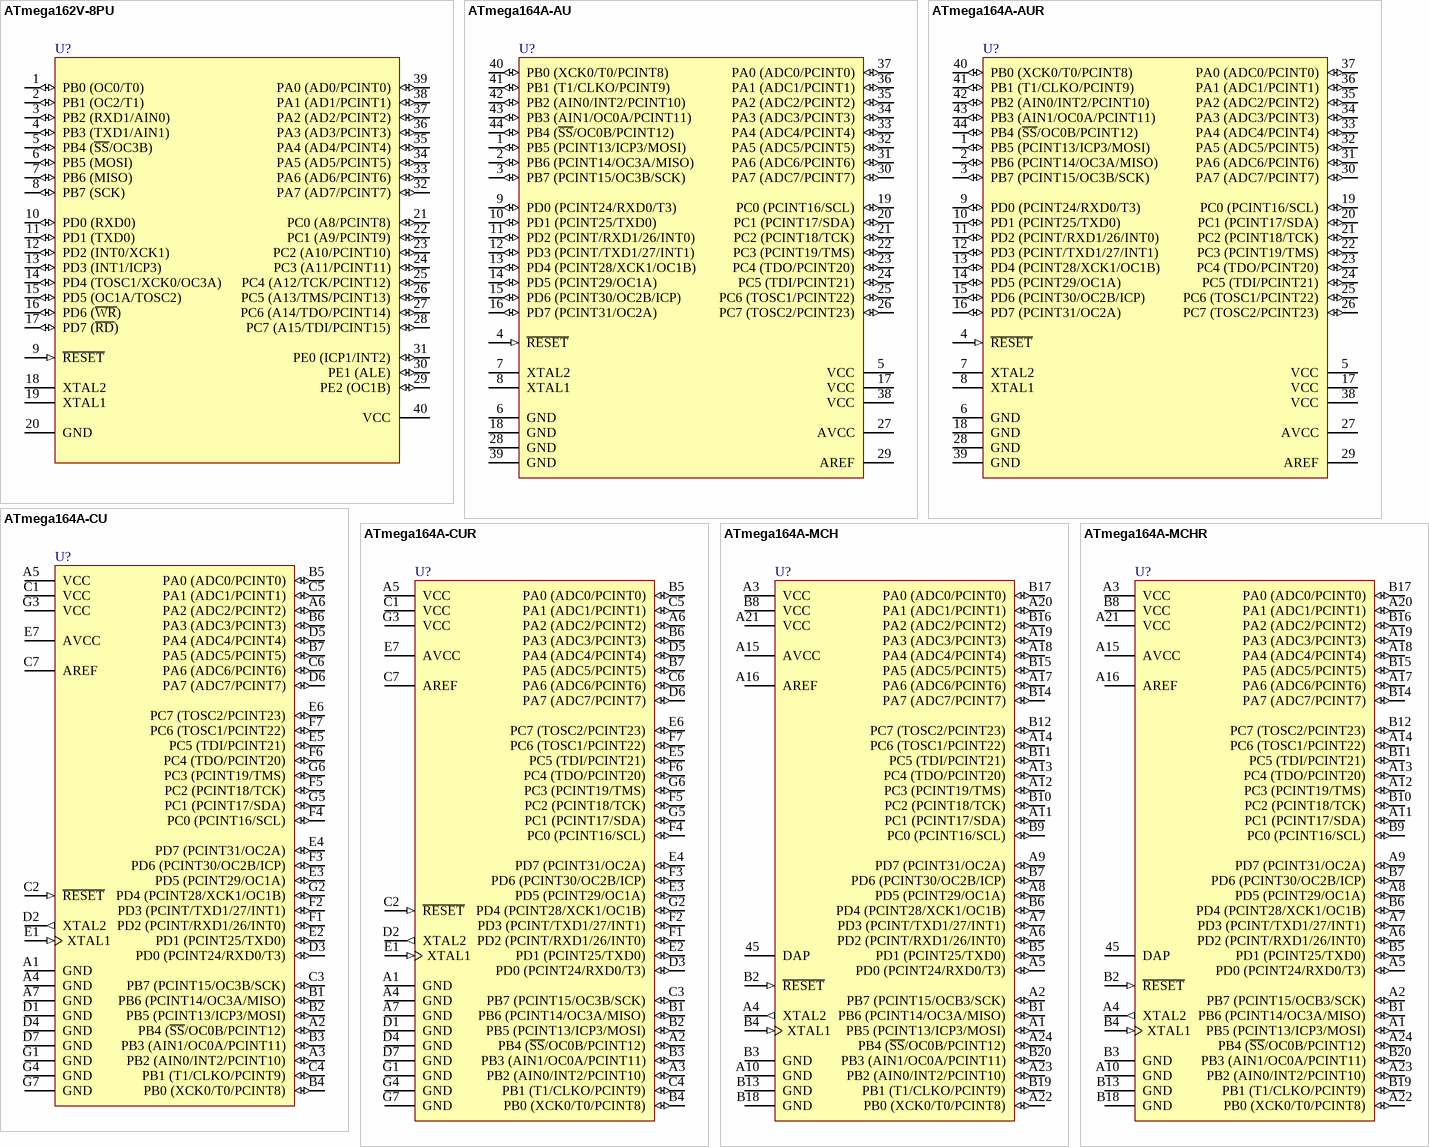
[diagram p23: symbols ATmega162V-8PU to ATmega164A-MCHR]

## ATmega162V-8PU
designator U?
8-bit AVR Microcontroller, 16KB Flash, 512 Bytes EEPROM, 1KB SRAM, 40-pin PDIP, Industrial Grade (-40°C to 85°C); PartNumber: ATmega162V-8PU; DatasheetVersion: revK, Jul-2009; PackageVersion: revB, Sep-2001; PackageReference: 40P6; PackageDescription: 40-lead (0.600"/15.24mm Wide) Plastic Dual Inline Package (PDIP); Code_JEDEC: MS-011-AC; ComponentLink1Description: Manufacturer URL; ComponentLink1URL: http://www.atmel.com/; ComponentLink2Description: ATmega162 (V)  Datasheet; ComponentLink2URL: http://www.atmel.com/dyn/resources/prod_documents/doc2513.pdf; ComponentLink3Description: ATmega162 (V) Summary; ComponentLink3URL: http://www.atmel.com/dyn/resources/prod_documents/2513S.pdf
footprint 40P6 (DIP, 40-Leads, Row Spacing 15.24mm, Pitch 2.54mm, Body 52.2x13.95mm)
pins: 1 PB0 (OC0/T0) (io), 2 PB1 (OC2/T1) (io), 3 PB2 (RXD1/AIN0) (io), 4 PB3 (TXD1/AIN1) (io), 5 PB4 (~{SS}/OC3B) (io), 6 PB5 (MOSI) (io), 7 PB6 (MISO) (io), 8 PB7 (SCK) (io), 9 ~{RESET} (in), 10 PD0 (RXD0) (io), 11 PD1 (TXD0) (io), 12 PD2 (INT0/XCK1) (io), 13 PD3 (INT1/ICP3) (io), 14 PD4 (TOSC1/XCK0/OC3A) (io), 15 PD5 (OC1A/TOSC2) (io), 16 PD6 (~{WR}) (io), 17 PD7 (~{RD}) (io), 18 XTAL2, 19 XTAL1, 20 GND (power), 21 PC0 (A8/PCINT8) (io), 22 PC1 (A9/PCINT9) (io), 23 PC2 (A10/PCINT10) (io), 24 PC3 (A11/PCINT11) (io), 25 PC4 (A12/TCK/PCINT12) (io), 26 PC5 (A13/TMS/PCINT13) (io), 27 PC6 (A14/TDO/PCINT14) (io), 28 PC7 (A15/TDI/PCINT15) (io), 29 PE2 (OC1B) (io), 30 PE1 (ALE) (io), 31 PE0 (ICP1/INT2) (io), 32 PA7 (AD7/PCINT7) (io), 33 PA6 (AD6/PCINT6) (io), 34 PA5 (AD5/PCINT5) (io), 35 PA4 (AD4/PCINT4) (io), 36 PA3 (AD3/PCINT3) (io), 37 PA2 (AD2/PCINT2) (io), 38 PA1 (AD1/PCINT1) (io), 39 PA0 (AD0/PCINT0) (io), 40 VCC (power)

## ATmega164A-AU
designator U?
8-bit AVR Microcontroller, 16KB Flash, 512 Bytes EEPROM, 1KB SRAM, 44-pin TQFP, Industrial Grade (-40°C to 85°C); DatasheetVersion: revC, Jun-2011; PackageVersion: revC, Oct-2010; PackageReference: 44A; PackageDescription: 44-Pin Plastic Thin Profile Quad Flat Pack, 10 x 10 x 1.0 mm Body, 0.8 mm Pitch (TQFP); Code_JEDEC: MS-026-ACB; ComponentLink1Description: Manufacturer URL; ComponentLink1URL: http://www.atmel.com/; ComponentLink2Description: ATmega164A/164PA/324A/324PA/644A/644PA/1284/1284P Datasheet; ComponentLink2URL: http://www.atmel.com/dyn/resources/prod_documents/doc8272.pdf; ComponentLink3Description: ATmega164A/164PA/324A/324PA/644A/644PA/1284/1284P Summary; ComponentLink3URL: http://www.atmel.com/dyn/resources/prod_documents/8272S.pdf
footprint 44A_N (Thin QFP, 44-Leads, Body 10x10mm, Pitch 0.8mm, IPC Medium Density)
footprint 44A_L (Thin QFP, 44-Leads, Body 10x10mm, Pitch 0.8mm, IPC High Density)
footprint 44A_M (Thin QFP, 44-Leads, Body 10x10mm, Pitch 0.8mm, IPC Low Density)
pins: 1 PB5 (PCINT13/ICP3/MOSI) (io), 2 PB6 (PCINT14/OC3A/MISO) (io), 3 PB7 (PCINT15/OC3B/SCK) (io), 4 ~{RESET} (in), 5 VCC (power), 6 GND (power), 7 XTAL2, 8 XTAL1, 9 PD0 (PCINT24/RXD0/T3) (io), 10 PD1 (PCINT25/TXD0) (io), 11 PD2 (PCINT/RXD1/26/INT0) (io), 12 PD3 (PCINT/TXD1/27/INT1) (io), 13 PD4 (PCINT28/XCK1/OC1B) (io), 14 PD5 (PCINT29/OC1A) (io), 15 PD6 (PCINT30/OC2B/ICP) (io), 16 PD7 (PCINT31/OC2A) (io), 17 VCC (power), 18 GND (power), 19 PC0 (PCINT16/SCL) (io), 20 PC1 (PCINT17/SDA) (io), 21 PC2 (PCINT18/TCK) (io), 22 PC3 (PCINT19/TMS) (io), 23 PC4 (TDO/PCINT20) (io), 24 PC5 (TDI/PCINT21) (io), 25 PC6 (TOSC1/PCINT22) (io), 26 PC7 (TOSC2/PCINT23) (io), 27 AVCC (power), 28 GND (power), 29 AREF (power), 30 PA7 (ADC7/PCINT7) (io), 31 PA6 (ADC6/PCINT6) (io), 32 PA5 (ADC5/PCINT5) (io), 33 PA4 (ADC4/PCINT4) (io), 34 PA3 (ADC3/PCINT3) (io), 35 PA2 (ADC2/PCINT2) (io), 36 PA1 (ADC1/PCINT1) (io), 37 PA0 (ADC0/PCINT0) (io), 38 VCC (power), 39 GND (power), 40 PB0 (XCK0/T0/PCINT8) (io), 41 PB1 (T1/CLKO/PCINT9) (io), 42 PB2 (AIN0/INT2/PCINT10) (io), 43 PB3 (AIN1/OC0A/PCINT11) (io), 44 PB4 (~{SS}/OC0B/PCINT12) (io)

## ATmega164A-AUR
designator U?
8-bit AVR Microcontroller, 16KB Flash, 512 Bytes EEPROM, 1KB SRAM, 44-pin TQFP, Industrial Grade (-40°C to 85°C), Reel; DatasheetVersion: revC, Jun-2011; PackageVersion: revC, Oct-2010; PackageReference: 44A; PackageDescription: 44-Pin Plastic Thin Profile Quad Flat Pack, 10 x 10 x 1.0 mm Body, 0.8 mm Pitch (TQFP); Code_JEDEC: MS-026-ACB; ComponentLink1Description: Manufacturer URL; ComponentLink1URL: http://www.atmel.com/; ComponentLink2Description: ATmega164A/164PA/324A/324PA/644A/644PA/1284/1284P Datasheet; ComponentLink2URL: http://www.atmel.com/dyn/resources/prod_documents/doc8272.pdf; ComponentLink3Description: ATmega164A/164PA/324A/324PA/644A/644PA/1284/1284P Summary; ComponentLink3URL: http://www.atmel.com/dyn/resources/prod_documents/8272S.pdf
footprint 44A_N (Thin QFP, 44-Leads, Body 10x10mm, Pitch 0.8mm, IPC Medium Density)
footprint 44A_L (Thin QFP, 44-Leads, Body 10x10mm, Pitch 0.8mm, IPC High Density)
footprint 44A_M (Thin QFP, 44-Leads, Body 10x10mm, Pitch 0.8mm, IPC Low Density)
pins: 1 PB5 (PCINT13/ICP3/MOSI) (io), 2 PB6 (PCINT14/OC3A/MISO) (io), 3 PB7 (PCINT15/OC3B/SCK) (io), 4 ~{RESET} (in), 5 VCC (power), 6 GND (power), 7 XTAL2, 8 XTAL1, 9 PD0 (PCINT24/RXD0/T3) (io), 10 PD1 (PCINT25/TXD0) (io), 11 PD2 (PCINT/RXD1/26/INT0) (io), 12 PD3 (PCINT/TXD1/27/INT1) (io), 13 PD4 (PCINT28/XCK1/OC1B) (io), 14 PD5 (PCINT29/OC1A) (io), 15 PD6 (PCINT30/OC2B/ICP) (io), 16 PD7 (PCINT31/OC2A) (io), 17 VCC (power), 18 GND (power), 19 PC0 (PCINT16/SCL) (io), 20 PC1 (PCINT17/SDA) (io), 21 PC2 (PCINT18/TCK) (io), 22 PC3 (PCINT19/TMS) (io), 23 PC4 (TDO/PCINT20) (io), 24 PC5 (TDI/PCINT21) (io), 25 PC6 (TOSC1/PCINT22) (io), 26 PC7 (TOSC2/PCINT23) (io), 27 AVCC (power), 28 GND (power), 29 AREF (power), 30 PA7 (ADC7/PCINT7) (io), 31 PA6 (ADC6/PCINT6) (io), 32 PA5 (ADC5/PCINT5) (io), 33 PA4 (ADC4/PCINT4) (io), 34 PA3 (ADC3/PCINT3) (io), 35 PA2 (ADC2/PCINT2) (io), 36 PA1 (ADC1/PCINT1) (io), 37 PA0 (ADC0/PCINT0) (io), 38 VCC (power), 39 GND (power), 40 PB0 (XCK0/T0/PCINT8) (io), 41 PB1 (T1/CLKO/PCINT9) (io), 42 PB2 (AIN0/INT2/PCINT10) (io), 43 PB3 (AIN1/OC0A/PCINT11) (io), 44 PB4 (~{SS}/OC0B/PCINT12) (io)

## ATmega164A-CU
designator U?
8-bit AVR Microcontroller, 16KB Flash, 512 Bytes EEPROM, 1KB SRAM, 49-pin VFBGA, Industrial Grade (-40°C to 85°C); DatasheetVersion: revC, Jun-2011; PackageVersion: revA, Mar-2008; PackageReference: 49C2; PackageDescription: 49-Ball Very Thin Fine-Pitch BGA, 5 x 5 x 1 mm Body, 0.65 mm Pitch (VFBGA); ComponentLink1Description: Manufacturer URL; ComponentLink1URL: http://www.atmel.com/; ComponentLink2Description: ATmega164A/164PA/324A/324PA/644A/644PA/1284/1284P Datasheet; ComponentLink2URL: http://www.atmel.com/dyn/resources/prod_documents/doc8272.pdf; ComponentLink3Description: ATmega164A/164PA/324A/324PA/644A/644PA/1284/1284P Summary; ComponentLink3URL: http://www.atmel.com/dyn/resources/prod_documents/8272S.pdf
footprint 49C2 (BGA, 49-Leads, Body 5x5mm, Pitch 0.65mm)
pins: A1 GND (power), A2 PB4 (~{SS}/OC0B/PCINT12) (io), A3 PB2 (AIN0/INT2/PCINT10) (io), A4 GND (power), A5 VCC (power), A6 PA2 (ADC2/PCINT2) (io), A7 GND (power), B1 PB6 (PCINT14/OC3A/MISO) (io), B2 PB5 (PCINT13/ICP3/MOSI) (io), B3 PB3 (AIN1/OC0A/PCINT11) (io), B4 PB0 (XCK0/T0/PCINT8) (io), B5 PA0 (ADC0/PCINT0) (io), B6 PA3 (ADC3/PCINT3) (io), B7 PA5 (ADC5/PCINT5) (io), C1 VCC (power), C2 ~{RESET} (in), C3 PB7 (PCINT15/OC3B/SCK) (io), C4 PB1 (T1/CLKO/PCINT9) (io), C5 PA1 (ADC1/PCINT1) (io), C6 PA6 (ADC6/PCINT6) (io), C7 AREF (power), D1 GND (power), D2 XTAL2 (out), D3 PD0 (PCINT24/RXD0/T3) (io), D4 GND (power), D5 PA4 (ADC4/PCINT4) (io), D6 PA7 (ADC7/PCINT7) (io), D7 GND (power), E1 XTAL1 (in), E2 PD1 (PCINT25/TXD0) (io), E3 PD5 (PCINT29/OC1A) (io), E4 PD7 (PCINT31/OC2A) (io), E5 PC5 (TDI/PCINT21) (io), E6 PC7 (TOSC2/PCINT23) (io), E7 AVCC (power), F1 PD2 (PCINT/RXD1/26/INT0) (io), F2 PD3 (PCINT/TXD1/27/INT1) (io), F3 PD6 (PCINT30/OC2B/ICP) (io), F4 PC0 (PCINT16/SCL) (io), F5 PC2 (PCINT18/TCK) (io), F6 PC4 (TDO/PCINT20) (io), F7 PC6 (TOSC1/PCINT22) (io), G1 GND (power), G2 PD4 (PCINT28/XCK1/OC1B) (io), G3 VCC (power), G4 GND (power), G5 PC1 (PCINT17/SDA) (io), G6 PC3 (PCINT19/TMS) (io), G7 GND (power)

## ATmega164A-CUR
designator U?
8-bit AVR Microcontroller, 16KB Flash, 512 Bytes EEPROM, 1KB SRAM, 49-pin VFBGA, Industrial Grade (-40°C to 85°C), Reel; DatasheetVersion: revC, Jun-2011; PackageVersion: revA, Mar-2008; PackageReference: 49C2; PackageDescription: 49-Ball Very Thin Fine-Pitch BGA, 5 x 5 x 1 mm Body, 0.65 mm Pitch (VFBGA); ComponentLink1Description: Manufacturer URL; ComponentLink1URL: http://www.atmel.com/; ComponentLink2Description: ATmega164A/164PA/324A/324PA/644A/644PA/1284/1284P Datasheet; ComponentLink2URL: http://www.atmel.com/dyn/resources/prod_documents/doc8272.pdf; ComponentLink3Description: ATmega164A/164PA/324A/324PA/644A/644PA/1284/1284P Summary; ComponentLink3URL: http://www.atmel.com/dyn/resources/prod_documents/8272S.pdf
footprint 49C2 (BGA, 49-Leads, Body 5x5mm, Pitch 0.65mm)
pins: A1 GND (power), A2 PB4 (~{SS}/OC0B/PCINT12) (io), A3 PB2 (AIN0/INT2/PCINT10) (io), A4 GND (power), A5 VCC (power), A6 PA2 (ADC2/PCINT2) (io), A7 GND (power), B1 PB6 (PCINT14/OC3A/MISO) (io), B2 PB5 (PCINT13/ICP3/MOSI) (io), B3 PB3 (AIN1/OC0A/PCINT11) (io), B4 PB0 (XCK0/T0/PCINT8) (io), B5 PA0 (ADC0/PCINT0) (io), B6 PA3 (ADC3/PCINT3) (io), B7 PA5 (ADC5/PCINT5) (io), C1 VCC (power), C2 ~{RESET} (in), C3 PB7 (PCINT15/OC3B/SCK) (io), C4 PB1 (T1/CLKO/PCINT9) (io), C5 PA1 (ADC1/PCINT1) (io), C6 PA6 (ADC6/PCINT6) (io), C7 AREF (power), D1 GND (power), D2 XTAL2 (out), D3 PD0 (PCINT24/RXD0/T3) (io), D4 GND (power), D5 PA4 (ADC4/PCINT4) (io), D6 PA7 (ADC7/PCINT7) (io), D7 GND (power), E1 XTAL1 (in), E2 PD1 (PCINT25/TXD0) (io), E3 PD5 (PCINT29/OC1A) (io), E4 PD7 (PCINT31/OC2A) (io), E5 PC5 (TDI/PCINT21) (io), E6 PC7 (TOSC2/PCINT23) (io), E7 AVCC (power), F1 PD2 (PCINT/RXD1/26/INT0) (io), F2 PD3 (PCINT/TXD1/27/INT1) (io), F3 PD6 (PCINT30/OC2B/ICP) (io), F4 PC0 (PCINT16/SCL) (io), F5 PC2 (PCINT18/TCK) (io), F6 PC4 (TDO/PCINT20) (io), F7 PC6 (TOSC1/PCINT22) (io), G1 GND (power), G2 PD4 (PCINT28/XCK1/OC1B) (io), G3 VCC (power), G4 GND (power), G5 PC1 (PCINT17/SDA) (io), G6 PC3 (PCINT19/TMS) (io), G7 GND (power)

## ATmega164A-MCH
designator U?
8-bit AVR Microcontroller, 16KB Flash, 512 Bytes EEPROM, 1KB SRAM, 44-pin DRQFN, Industrial Grade (-40°C to 85°C); DatasheetVersion: revC, Jun-2011; PackageVersion: revA, Sep-2007; PackageReference: 44MC; PackageDescription: 44-Pin Quad Flat No-Lead (2-Row Staggered), 5 x 5 x 1 mm Body, 2.6 x 2.6 mm Exposed Pad; ComponentLink1Description: Manufacturer URL; ComponentLink1URL: http://www.atmel.com/; ComponentLink2Description: ATmega164A/164PA/324A/324PA/644A/644PA/1284/1284P Datasheet; ComponentLink2URL: http://www.atmel.com/dyn/resources/prod_documents/doc8272.pdf; ComponentLink3Description: ATmega164A/164PA/324A/324PA/644A/644PA/1284/1284P Summary; ComponentLink3URL: http://www.atmel.com/dyn/resources/prod_documents/8272S.pdf
footprint 44MC (QFN, 44-Leads, 2-Rows Staggered, Body 5x5 mm, Pitch 0.7mm, Thermal Pad 2.6x2.6mm)
pins: 45 DAP (power), A1 PB5 (PCINT13/ICP3/MOSI) (io), A2 PB7 (PCINT15/OCB3/SCK) (io), A3 VCC (power), A4 XTAL2 (out), A5 PD0 (PCINT24/RXD0/T3) (io), A6 PD2 (PCINT/RXD1/26/INT0) (io), A7 PD3 (PCINT/TXD1/27/INT1) (io), A8 PD5 (PCINT29/OC1A) (io), A9 PD7 (PCINT31/OC2A) (io), A10 GND (power), A11 PC1 (PCINT17/SDA) (io), A12 PC3 (PCINT19/TMS) (io), A13 PC4 (TDO/PCINT20) (io), A14 PC6 (TOSC1/PCINT22) (io), A15 AVCC (power), A16 AREF (power), A17 PA6 (ADC6/PCINT6) (io), A18 PA4 (ADC4/PCINT4) (io), A19 PA3 (ADC3/PCINT3) (io), A20 PA1 (ADC1/PCINT1) (io), A21 VCC (power), A22 PB0 (XCK0/T0/PCINT8) (io), A23 PB2 (AIN0/INT2/PCINT10) (io), A24 PB4 (~{SS}/OC0B/PCINT12) (io), B1 PB6 (PCINT14/OC3A/MISO) (io), B2 ~{RESET} (in), B3 GND (power), B4 XTAL1 (in), B5 PD1 (PCINT25/TXD0) (io), B6 PD4 (PCINT28/XCK1/OC1B) (io), B7 PD6 (PCINT30/OC2B/ICP) (io), B8 VCC (power), B9 PC0 (PCINT16/SCL) (io), B10 PC2 (PCINT18/TCK) (io), B11 PC5 (TDI/PCINT21) (io), B12 PC7 (TOSC2/PCINT23) (io), B13 GND (power), B14 PA7 (ADC7/PCINT7) (io), B15 PA5 (ADC5/PCINT5) (io), B16 PA2 (ADC2/PCINT2) (io), B17 PA0 (ADC0/PCINT0) (io), B18 GND (power), B19 PB1 (T1/CLKO/PCINT9) (io), B20 PB3 (AIN1/OC0A/PCINT11) (io)

## ATmega164A-MCHR
designator U?
8-bit AVR Microcontroller, 16KB Flash, 512 Bytes EEPROM, 1KB SRAM, 44-pin DRQFN, Industrial Grade (-40°C to 85°C), Reel; DatasheetVersion: revC, Jun-2011; PackageVersion: revA, Sep-2007; PackageReference: 44MC; PackageDescription: 44-Pin Quad Flat No-Lead (2-Row Staggered), 5 x 5 x 1 mm Body, 2.6 x 2.6 mm Exposed Pad; ComponentLink1Description: Manufacturer URL; ComponentLink1URL: http://www.atmel.com/; ComponentLink2Description: ATmega164A/164PA/324A/324PA/644A/644PA/1284/1284P Datasheet; ComponentLink2URL: http://www.atmel.com/dyn/resources/prod_documents/doc8272.pdf; ComponentLink3Description: ATmega164A/164PA/324A/324PA/644A/644PA/1284/1284P Summary; ComponentLink3URL: http://www.atmel.com/dyn/resources/prod_documents/8272S.pdf
footprint 44MC (QFN, 44-Leads, 2-Rows Staggered, Body 5x5 mm, Pitch 0.7mm, Thermal Pad 2.6x2.6mm)
pins: 45 DAP (power), A1 PB5 (PCINT13/ICP3/MOSI) (io), A2 PB7 (PCINT15/OCB3/SCK) (io), A3 VCC (power), A4 XTAL2 (out), A5 PD0 (PCINT24/RXD0/T3) (io), A6 PD2 (PCINT/RXD1/26/INT0) (io), A7 PD3 (PCINT/TXD1/27/INT1) (io), A8 PD5 (PCINT29/OC1A) (io), A9 PD7 (PCINT31/OC2A) (io), A10 GND (power), A11 PC1 (PCINT17/SDA) (io), A12 PC3 (PCINT19/TMS) (io), A13 PC4 (TDO/PCINT20) (io), A14 PC6 (TOSC1/PCINT22) (io), A15 AVCC (power), A16 AREF (power), A17 PA6 (ADC6/PCINT6) (io), A18 PA4 (ADC4/PCINT4) (io), A19 PA3 (ADC3/PCINT3) (io), A20 PA1 (ADC1/PCINT1) (io), A21 VCC (power), A22 PB0 (XCK0/T0/PCINT8) (io), A23 PB2 (AIN0/INT2/PCINT10) (io), A24 PB4 (~{SS}/OC0B/PCINT12) (io), B1 PB6 (PCINT14/OC3A/MISO) (io), B2 ~{RESET} (in), B3 GND (power), B4 XTAL1 (in), B5 PD1 (PCINT25/TXD0) (io), B6 PD4 (PCINT28/XCK1/OC1B) (io), B7 PD6 (PCINT30/OC2B/ICP) (io), B8 VCC (power), B9 PC0 (PCINT16/SCL) (io), B10 PC2 (PCINT18/TCK) (io), B11 PC5 (TDI/PCINT21) (io), B12 PC7 (TOSC2/PCINT23) (io), B13 GND (power), B14 PA7 (ADC7/PCINT7) (io), B15 PA5 (ADC5/PCINT5) (io), B16 PA2 (ADC2/PCINT2) (io), B17 PA0 (ADC0/PCINT0) (io), B18 GND (power), B19 PB1 (T1/CLKO/PCINT9) (io), B20 PB3 (AIN1/OC0A/PCINT11) (io)

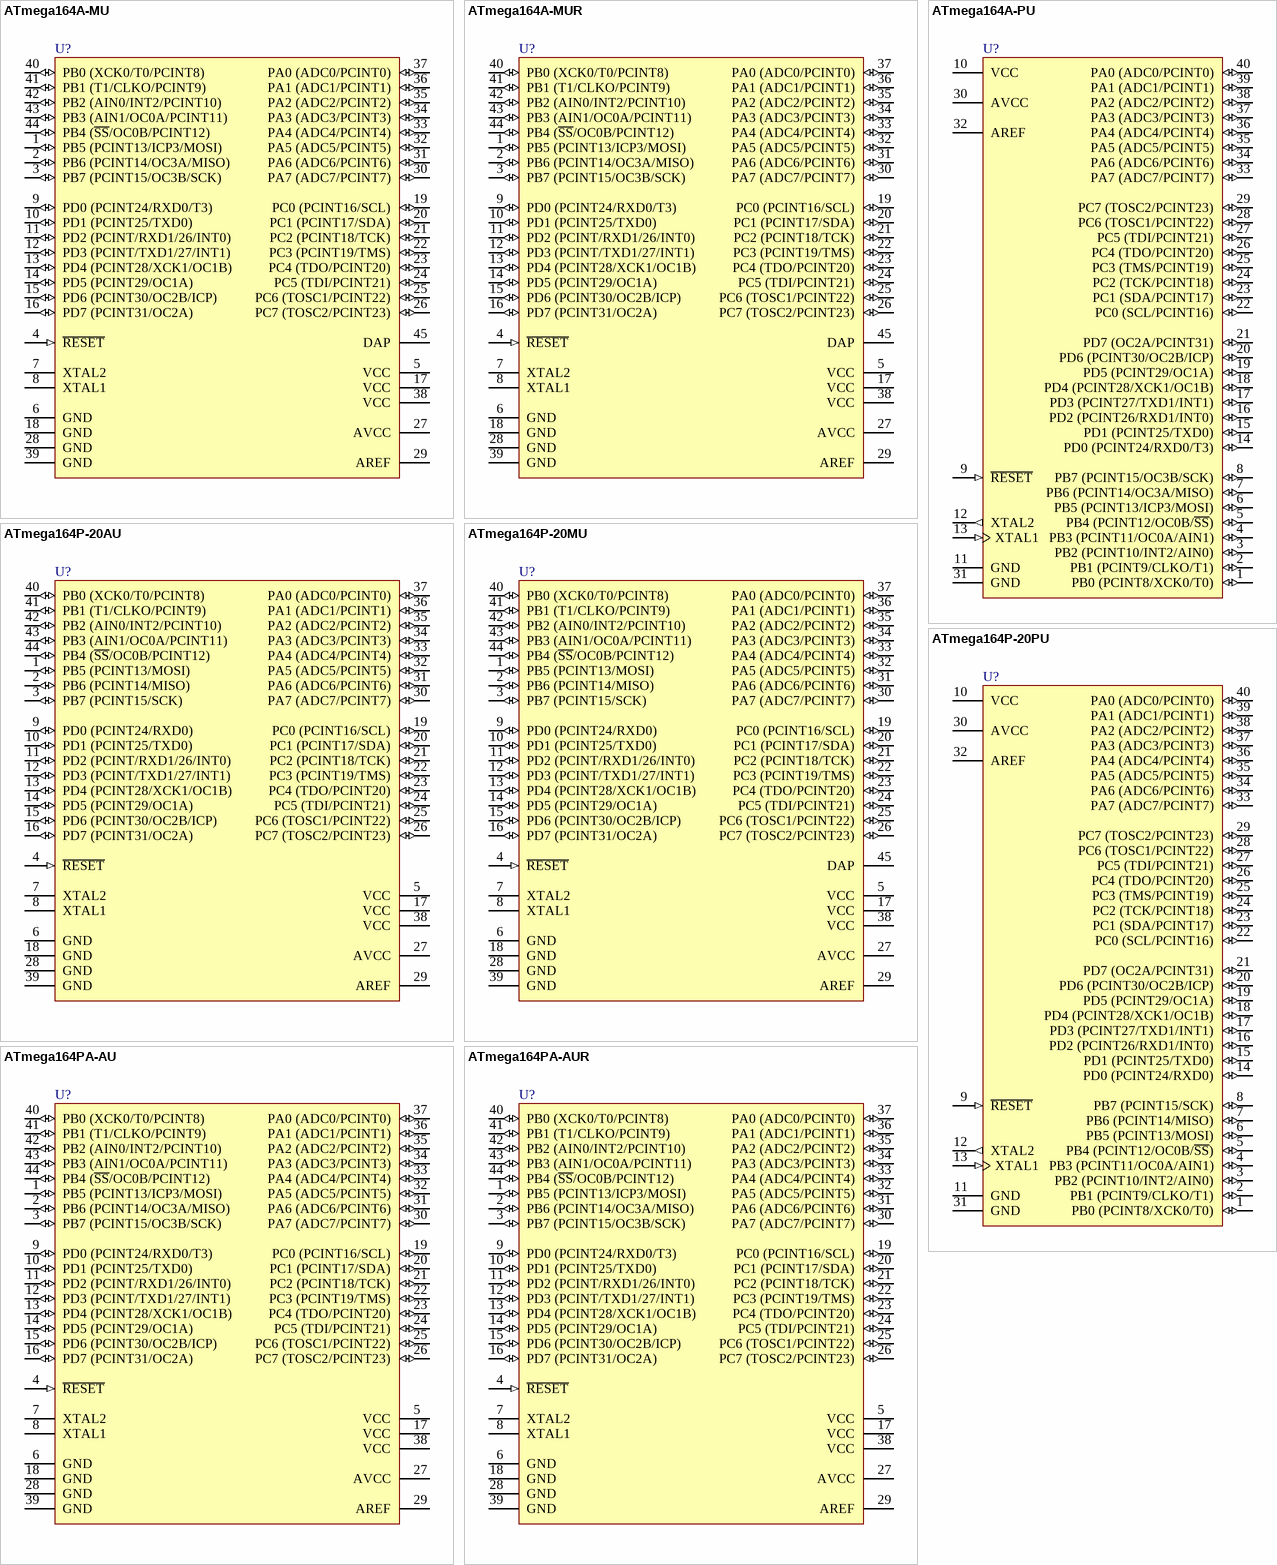
[diagram p24: symbols ATmega164A-MU to ATmega164PA-AUR]

## ATmega164A-MU
designator U?
8-bit AVR Microcontroller, 16KB Flash, 512 Bytes EEPROM, 1KB SRAM, 44-pin VQFN, Industrial Grade (-40°C to 85°C); DatasheetVersion: revC, Jun-2011; PackageVersion: revH, Sep-2008; PackageReference: 44M1; PackageDescription: 44-Pin Plastic Very Thin Quad Flat No-Lead Package, 7 x 7 x 1.0 mm Body, 0.5 mm Pitch (VQFN), 5.2 mm Exposed Pad; Code_JEDEC: MO-220-VKKD-1; ComponentLink1Description: Manufacturer URL; ComponentLink1URL: http://www.atmel.com/; ComponentLink2Description: ATmega164A/164PA/324A/324PA/644A/644PA/1284/1284P Datasheet; ComponentLink2URL: http://www.atmel.com/dyn/resources/prod_documents/doc8272.pdf; ComponentLink3Description: ATmega164A/164PA/324A/324PA/644A/644PA/1284/1284P Summary; ComponentLink3URL: http://www.atmel.com/dyn/resources/prod_documents/8272S.pdf
footprint 44M1_N (QFN, 44-Leads, Body 7x7mm, Pitch 0.5mm, Thermal Pad 5.3x5.3mm, IPC Medium Density)
footprint 44M1_L (QFN, 44-Leads, Body 7x7mm, Pitch 0.5mm, Thermal Pad 5.3x5.3mm, IPC High Density)
footprint 44M1_M (QFN, 44-Leads, Body 7x7mm, Pitch 0.5mm, Thermal Pad 5.3x5.3mm, IPC Low Density)
pins: 1 PB5 (PCINT13/ICP3/MOSI) (io), 2 PB6 (PCINT14/OC3A/MISO) (io), 3 PB7 (PCINT15/OC3B/SCK) (io), 4 ~{RESET} (in), 5 VCC (power), 6 GND (power), 7 XTAL2, 8 XTAL1, 9 PD0 (PCINT24/RXD0/T3) (io), 10 PD1 (PCINT25/TXD0) (io), 11 PD2 (PCINT/RXD1/26/INT0) (io), 12 PD3 (PCINT/TXD1/27/INT1) (io), 13 PD4 (PCINT28/XCK1/OC1B) (io), 14 PD5 (PCINT29/OC1A) (io), 15 PD6 (PCINT30/OC2B/ICP) (io), 16 PD7 (PCINT31/OC2A) (io), 17 VCC (power), 18 GND (power), 19 PC0 (PCINT16/SCL) (io), 20 PC1 (PCINT17/SDA) (io), 21 PC2 (PCINT18/TCK) (io), 22 PC3 (PCINT19/TMS) (io), 23 PC4 (TDO/PCINT20) (io), 24 PC5 (TDI/PCINT21) (io), 25 PC6 (TOSC1/PCINT22) (io), 26 PC7 (TOSC2/PCINT23) (io), 27 AVCC (power), 28 GND (power), 29 AREF (power), 30 PA7 (ADC7/PCINT7) (io), 31 PA6 (ADC6/PCINT6) (io), 32 PA5 (ADC5/PCINT5) (io), 33 PA4 (ADC4/PCINT4) (io), 34 PA3 (ADC3/PCINT3) (io), 35 PA2 (ADC2/PCINT2) (io), 36 PA1 (ADC1/PCINT1) (io), 37 PA0 (ADC0/PCINT0) (io), 38 VCC (power), 39 GND (power), 40 PB0 (XCK0/T0/PCINT8) (io), 41 PB1 (T1/CLKO/PCINT9) (io), 42 PB2 (AIN0/INT2/PCINT10) (io), 43 PB3 (AIN1/OC0A/PCINT11) (io), 44 PB4 (~{SS}/OC0B/PCINT12) (io), 45 DAP (power)